# Altium schematic symbol library lib.SchLib: 383 symbols (part 2 of 3)
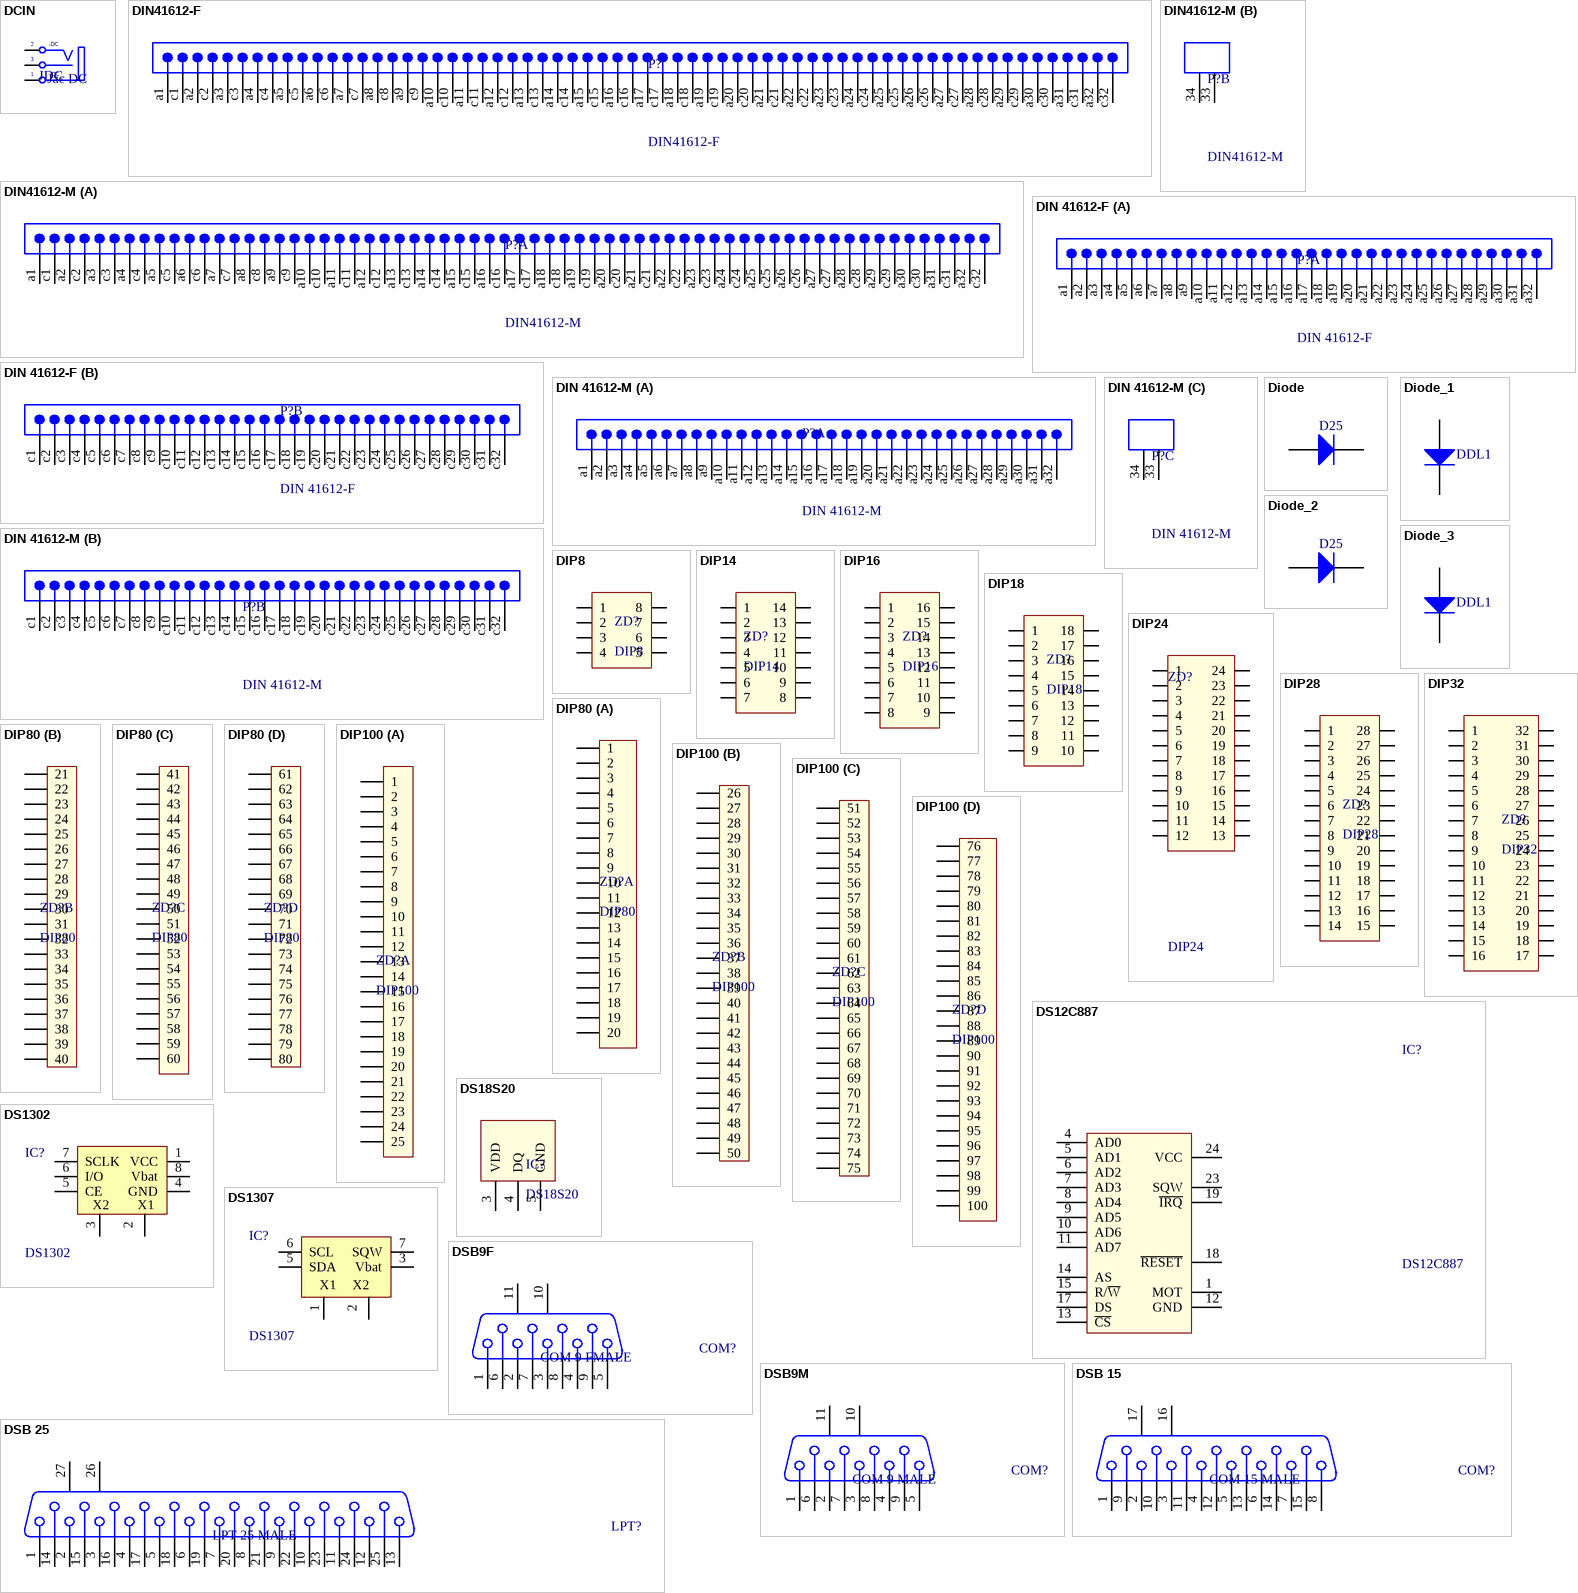
[diagram p15: symbols DCIN to DSB 25]

## DIN41612-M
designator P?
Eurocard DIN 41612, Type C, 62+2 Position, Rows a+c, Performance level 1, Male, Lead 3.0 mm, Pitch 2.54 mm; Note: Two leading contacts at positions a1 & a32.; DrillSize: Corresponds to nominal value.; Published: 6-Oct-2005; DatasheetDocument: 02-Jun-2003; PackageDocument: 18-May-2000; PackageReference: 0903164x951; Publisher: Altium Limited; ComponentLink1Description: Manufacturer Link; ComponentLink1URL: http://www.harting.com/; ComponentLink2Description: Packaging Specification; ComponentLink2URL: http://www.harkis.harting.com/_gds/pdf/TB_0903164x951_BL01_R27477.pdf
footprint DIN41612-M (Connector; DIN 41612, Type C, Thru-Hole; Rows a+c, 64 Position; Right Angle)
signal-integrity model DIN 41612
part A pins: a1, a2, a3, a4, a5, a6, a7, a8, a9, a10, a11, a12, a13, a14, a15, a16, a17, a18, a19, a20, a21, a22, a23, a24, a25, a26, a27, a28, a29, a30, a31, a32, c1, c2, c3, c4, c5, c6, c7, c8, c9, c10, c11, c12, c13, c14, c15, c16, c17, c18, c19, c20, c21, c22, c23, c24, c25, c26, c27, c28, c29, c30, c31, c32
part B pins: 33 MH1 "Mounting Fixture", 34 MH2 "Mounting Fixture"

## DIN 41612-F
designator P?
Eurocard DIN 41612, Type C, 64 Position, Rows a+c, Performance level 1, Male, Lead 3.0 mm, Pitch 2.54 mm; DrillSize: Corresponds to nominal value.; Published: 6-Oct-2005; DatasheetDocument: 02-Jun-2003; PackageDocument: 03-Jul-2000; PackageReference: 0903164x922; Publisher: Altium Limited; ComponentLink1Description: Manufacturer Link; ComponentLink1URL: http://www.harting.com/; ComponentLink2Description: Packaging Specification; ComponentLink2URL: http://www.harkis.harting.com/_gds/pdf/TB_0903164x922_BL01_R27486.pdf
footprint DIN41612-F (Connector; DIN 41612, Type C, Thru-Hole; Rows a+c, 64 Position; Vertical; No Mounting Fixture)
signal-integrity model DIN 41612
part A pins: a1, a2, a3, a4, a5, a6, a7, a8, a9, a10, a11, a12, a13, a14, a15, a16, a17, a18, a19, a20, a21, a22, a23, a24, a25, a26, a27, a28, a29, a30, a31, a32
part B pins: c1, c2, c3, c4, c5, c6, c7, c8, c9, c10, c11, c12, c13, c14, c15, c16, c17, c18, c19, c20, c21, c22, c23, c24, c25, c26, c27, c28, c29, c30, c31, c32

## DIN 41612-M
designator P?
Eurocard DIN 41612, Type C, 62+2 Position, Rows a+c, Performance level 1, Male, Lead 3.0 mm, Pitch 2.54 mm; Note: Two leading contacts at positions a1 & a32.; DrillSize: Corresponds to nominal value.; Published: 6-Oct-2005; DatasheetDocument: 02-Jun-2003; PackageDocument: 18-May-2000; PackageReference: 0903164x951; Publisher: Altium Limited; ComponentLink1Description: Manufacturer Link; ComponentLink1URL: http://www.harting.com/; ComponentLink2Description: Packaging Specification; ComponentLink2URL: http://www.harkis.harting.com/_gds/pdf/TB_0903164x951_BL01_R27477.pdf
footprint DIN41612-M (Connector; DIN 41612, Type C, Thru-Hole; Rows a+c, 64 Position; Right Angle)
signal-integrity model DIN 41612
part A pins: a1, a2, a3, a4, a5, a6, a7, a8, a9, a10, a11, a12, a13, a14, a15, a16, a17, a18, a19, a20, a21, a22, a23, a24, a25, a26, a27, a28, a29, a30, a31, a32
part B pins: c1, c2, c3, c4, c5, c6, c7, c8, c9, c10, c11, c12, c13, c14, c15, c16, c17, c18, c19, c20, c21, c22, c23, c24, c25, c26, c27, c28, c29, c30, c31, c32
part C pins: 33 MH1 "Mounting Fixture", 34 MH2 "Mounting Fixture"

## Diode
designator D25  (value not drawn)
Default Diode; Code - JEDEC: DO-214-AB; Value: 1N5007; Published: 8-Jun-2000; Revision: July-2002: Re-released for DXP Platform.; Publisher: Altium Limited
footprint D5AN (Diode 5A, W 200mil, L 250mil)
simulation model DIODE (Diode)
signal-integrity model Diode
pins: 1 A, 2 K

## Diode_1
designator DDL1, comment Diode  (value not drawn)
Default Diode; Code - JEDEC: DO-214-AB; Value: 1N5007; Published: 8-Jun-2000; Revision: July-2002: Re-released for DXP Platform.; Publisher: Altium Limited
footprint D5AN (Diode 5A, W 200mil, L 250mil)
simulation model DIODE (Diode)
signal-integrity model Diode
pins: 1 A, 2 K

## Diode_2
designator D25, comment Diode  (value not drawn)
Default Diode; Code - JEDEC: DO-214-AB; Value: 1N5007; Published: 8-Jun-2000; Revision: July-2002: Re-released for DXP Platform.; Publisher: Altium Limited
footprint D5AN (Diode 5A, W 200mil, L 250mil)
simulation model DIODE (Diode)
signal-integrity model Diode
pins: 1 A, 2 K

## Diode_3
designator DDL1, comment Diode  (value not drawn)
Default Diode; Code - JEDEC: DO-214-AB; Value: 1N5007; Published: 8-Jun-2000; Revision: July-2002: Re-released for DXP Platform.; Publisher: Altium Limited
footprint D5AN (Diode 5A, W 200mil, L 250mil)
simulation model DIODE (Diode)
signal-integrity model Diode
pins: 1 A, 2 K

## DIP8
designator ZD?
Value: DIP8
footprint DIP8/W0.3 (8 PIN, W 300mil, Pin to pin 100mil)
pins: 1, 2, 3, 4, 5, 6, 7, 8

## DIP14
designator ZD?
Value: DIP14
footprint DIP14/W0.3 (14PIN, W 300mil, Pin to pin 100mil)
pins: 1, 2, 3, 4, 5, 6, 7, 8, 9, 10, 11, 12, 13, 14

## DIP16
designator ZD?
Value: DIP16
footprint DIP16/W0.3 (16 PIN, W 300mil, Pin to pin 100mil)
pins: 1, 2, 3, 4, 5, 6, 7, 8, 9, 10, 11, 12, 13, 14, 15, 16

## DIP18
designator ZD?
Value: DIP18
footprint DIP18/W0.3 (18 PIN, W 300mil, Pin to pin 100mil)
pins: 1, 2, 3, 4, 5, 6, 7, 8, 9, 10, 11, 12, 13, 14, 15, 16, 17, 18

## DIP24
designator ZD?
Value: DIP24
footprint DIP28/W0.3 (28 PIN, W 300mil, Pin to pin 100mil)
pins: 1, 2, 3, 4, 5, 6, 7, 8, 9, 10, 11, 12, 13, 14, 15, 16, 17, 18, 19, 20, 21, 22, 23, 24

## DIP28
designator ZD?
Value: DIP28
footprint DIP28/W0.3 (28 PIN, W 300mil, Pin to pin 100mil)
pins: 1, 2, 3, 4, 5, 6, 7, 8, 9, 10, 11, 12, 13, 14, 15, 16, 17, 18, 19, 20, 21, 22, 23, 24, 25, 26, 27, 28

## DIP32
designator ZD?
Value: ZIP32
footprint DIP32/W0.6 (DIP32/W.600, Pin to pin 100mil)
pins: 1, 2, 3, 4, 5, 6, 7, 8, 9, 10, 11, 12, 13, 14, 15, 16, 17, 18, 19, 20, 21, 22, 23, 24, 25, 26, 27, 28, 29, 30, 31, 32

## DIP80
designator ZD?
Value: DIP80
footprint DIP80_2M (DIP80, P - P 200)
footprint TQFP-80 (Thin QFP, 80-Leads, Body 12x12mm, Pitch 0.5mm, IPC Low Density)
part A pins: 1, 2, 3, 4, 5, 6, 7, 8, 9, 10, 11, 12, 13, 14, 15, 16, 17, 18, 19, 20
part B pins: 21, 22, 23, 24, 25, 26, 27, 28, 29, 30, 31, 32, 33, 34, 35, 36, 37, 38, 39, 40
part C pins: 41, 42, 43, 44, 45, 46, 47, 48, 49, 50, 51, 52, 53, 54, 55, 56, 57, 58, 59, 60
part D pins: 61, 62, 63, 64, 65, 66, 67, 68, 69, 70, 71, 72, 73, 74, 75, 76, 77, 78, 79, 80

## DIP100
designator ZD?
Value: DIP100
footprint DIP100_2M (DIP100 - P-P 2mm)
footprint TQFP-100 (Footprint not found)
part A pins: 1, 2, 3, 4, 5, 6, 7, 8, 9, 10, 11, 12, 13, 14, 15, 16, 17, 18, 19, 20, 21, 22, 23, 24, 25
part B pins: 26, 27, 28, 29, 30, 31, 32, 33, 34, 35, 36, 37, 38, 39, 40, 41, 42, 43, 44, 45, 46, 47, 48, 49, 50
part C pins: 51, 52, 53, 54, 55, 56, 57, 58, 59, 60, 61, 62, 63, 64, 65, 66, 67, 68, 69, 70, 71, 72, 73, 74, 75
part D pins: 76, 77, 78, 79, 80, 81, 82, 83, 84, 85, 86, 87, 88, 89, 90, 91, 92, 93, 94, 95, 96, 97, 98, 99, 100

## DS12C887
designator IC?
Real Timer Parallel; Value: DS12C887
pins: 1 MOT, 4 AD0, 5 AD1, 6 AD2, 7 AD3, 8 AD4, 9 AD5, 10 AD6, 11 AD7, 12 GND, 13 ~{CS}, 14 AS, 15 R/~{W}, 17 DS, 18 ~{RESET}, 19 ~{IRQ}, 23 SQW, 24 VCC

## DS18S20
designator IC?
High Precision  1-Wire® Digital Thermometer
footprint DS18S20 (TO-92)
pins: 3 VDD, 4 DQ, 5 GND

## DS1302
designator IC?
Real Timer Serial - 2=>5V; Value: DS1307
footprint DIP8/W0.3 (8 PIN, W 300mil, Pin to pin 100mil)
footprint SO-8 (8-Pin Small Outline Integrated Circuit 1.27 mm Pitch, IPC Medium Density)
pins: 1 VCC, 2 X1, 3 X2, 4 GND, 5 CE, 6 I/O, 7 SCLK, 8 Vbat

## DS1307
designator IC?
Real Timer Serial; Value: DS1307
footprint DIP8/W0.3 (8 PIN, W 300mil, Pin to pin 100mil)
pins: 1 X1, 2 X2, 3 Vbat, 4 GND hidden to GND, 5 SDA, 6 SCL, 7 SQW, 8 VCC hidden to VCC

## DSB9F
designator COM?, comment COM 9 FMALE
COM 9; PackageDocument: O; Positions: 9; Gender: Receptacle; Value: COM 9; Published: 15-Jun-2001; LatestRevisionDate: 17-Jul-2002; LatestRevisionNote: Re-released for DXP Platform.; DatasheetDocument: 1-Sep-1999; PackageReference: 788750; Publisher: Altium Limited; Orientation: Right Angle
footprint DSB 9-F (Connector; D Subminiature; 9 Position; Right Angle; Pitch 1.385 mm)
signal-integrity model Connector
footprint DSB 9F-SM (Com 9 chan SMD,F)
pins: 1, 2, 3, 4, 5, 6, 7, 8, 9, 10 MH1, 11 MH2

## DSB9M
designator COM?, comment COM 9 MALE
COM 9; PackageDocument: O; Positions: 9; Gender: Receptacle; Value: COM 9; Published: 15-Jun-2001; LatestRevisionDate: 17-Jul-2002; LatestRevisionNote: Re-released for DXP Platform.; DatasheetDocument: 1-Sep-1999; PackageReference: 788750; Publisher: Altium Limited; Orientation: Right Angle
signal-integrity model Connector
footprint DSB 9M-SM (Com 9 chan SMD,F)
footprint DSB 9-M (Footprint not found)
pins: 1, 2, 3, 4, 5, 6, 7, 8, 9, 10 MH1, 11 MH2

## DSB 15
designator COM?, comment COM 15 MALE
COM 15; PackageDocument: O; Positions: 15; Gender: Receptacle; Value: COM 15; Published: 15-Jun-2001; LatestRevisionDate: 17-Jul-2002; LatestRevisionNote: Re-released for DXP Platform.; DatasheetDocument: 1-Sep-99; PackageReference: 788757; Publisher: Altium Limited; Orientation: Right Angle
footprint DSB 15-F (COM FMALE - D Subminiature; 15 Position; Right Angle; Pitch 1.385 mm)
signal-integrity model Connector
footprint DSB 15-M (LPT15 MALE - D Subminiature; 15 Position; Right Angle; Pitch 1.385 mm)
pins: 1, 2, 3, 4, 5, 6, 7, 8, 9, 10, 11, 12, 13, 14, 15, 16 MH1, 17 MH2

## DSB 25
designator LPT?, comment LPT 25 MALE
LPT 25; PackageDocument: U; Positions: 25; Gender: Receptacle; Value: LPT 25; Published: 15-Jun-2001; LatestRevisionDate: 17-Jul-2002; LatestRevisionNote: Re-released for DXP Platform.; DatasheetDocument: 19-Mar-1999; PackageReference: 787202; Publisher: Altium Limited; Orientation: Right Angle
footprint DSB 25-F (LPT FMALE - D Subminiature; 25 Position; Right Angle; Pitch 1.385 mm)
signal-integrity model Connector
footprint DSB 25F-SM (25 pin, connector LPT)
footprint DSB 25-M (LPT MALE D Subminiature; 25 Position; Right Angle; Pitch 1.385 mm)
pins: 1, 2, 3, 4, 5, 6, 7, 8, 9, 10, 11, 12, 13, 14, 15, 16, 17, 18, 19, 20, 21, 22, 23, 24, 25, 26 MH1, 27 MH2

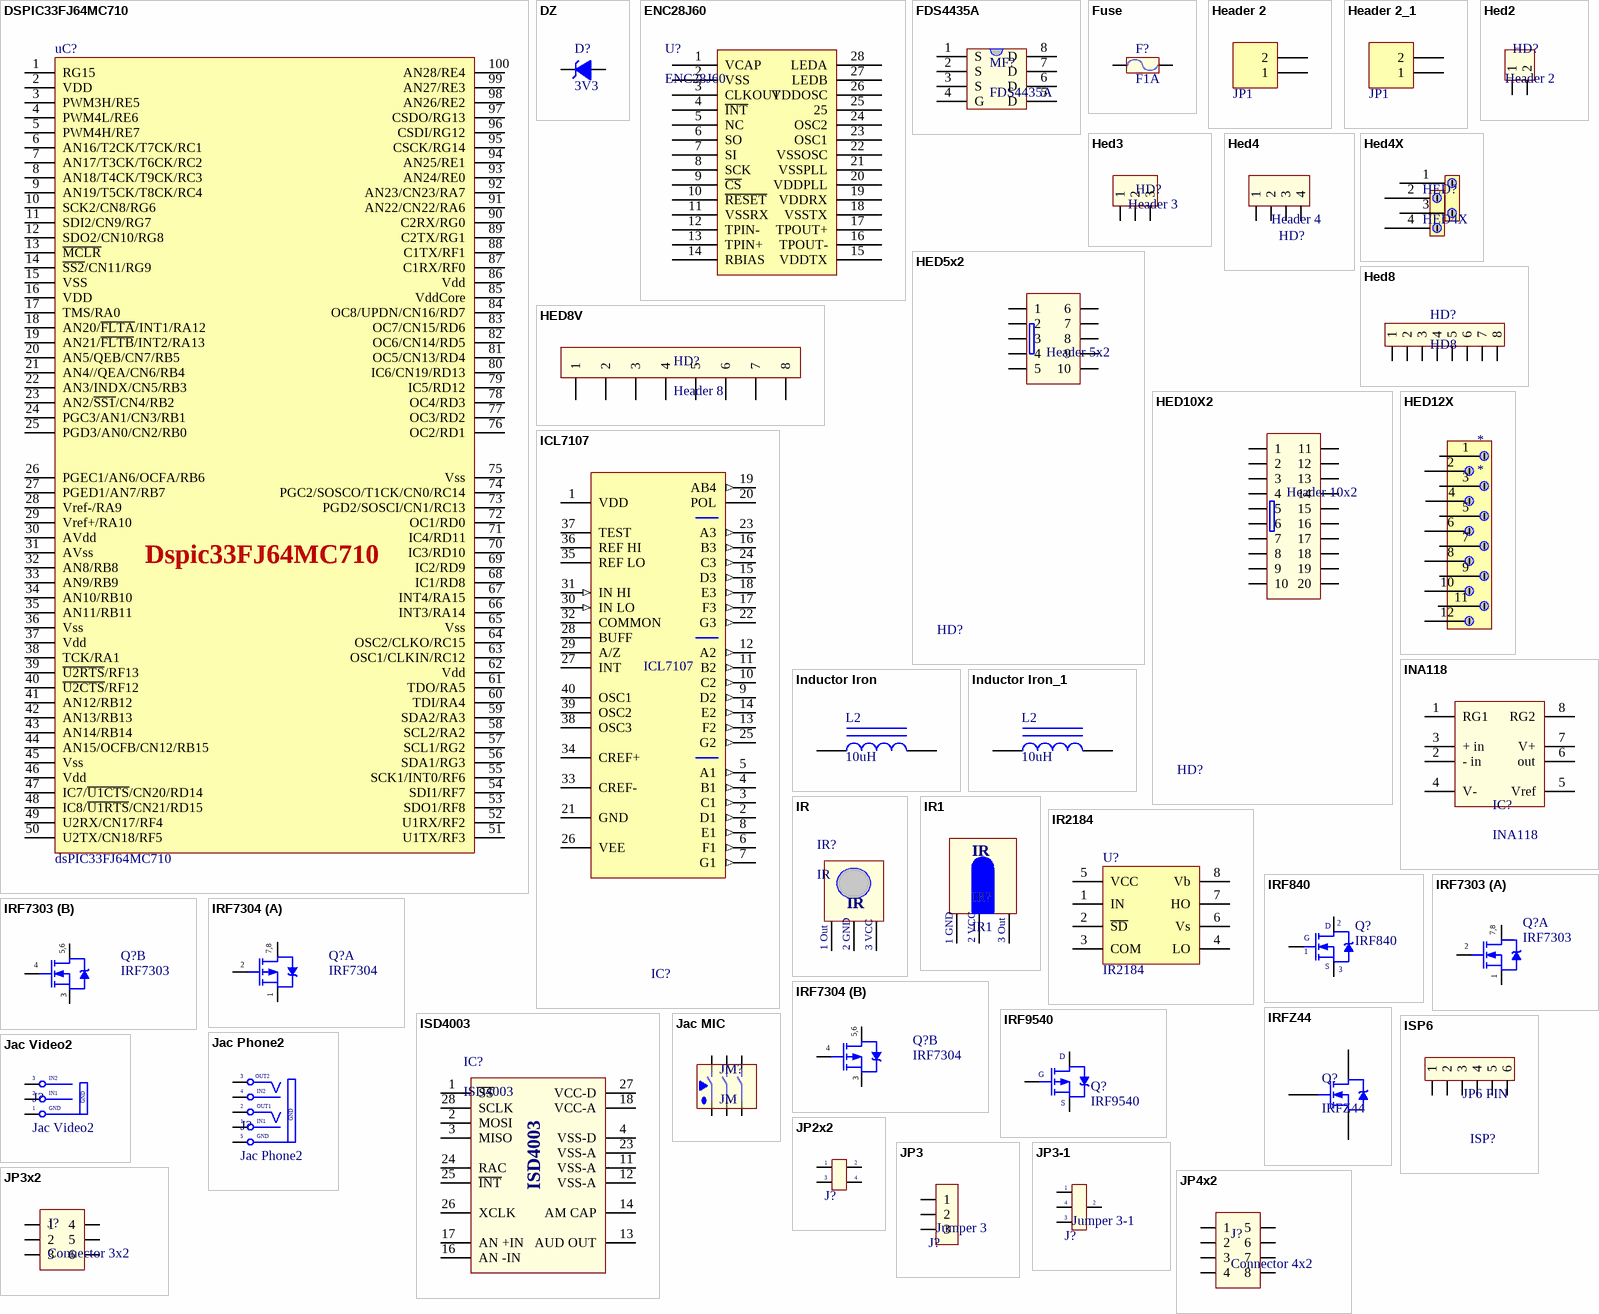
[diagram p7: symbols DSPIC33FJ64MC710 to JP4x2]

## DSPIC33FJ64MC710
designator uC?, comment dsPIC33FJ64MC710
dsPIC33FJ64/128/256_MC710
footprint SQFP12X12-100(N)
footprint SQFP14X14-100(N)
footprint TQFP-100-12X12 (Shrink QFP, 100-Leads, Body 12x12mm, Pitch 0.4mm, IPC High Density)
pins: 1 RG15, 2 VDD, 3 PWM3H/RE5, 4 PWM4L/RE6, 5 PWM4H/RE7, 6 AN16/T2CK/T7CK/RC1, 7 AN17/T3CK/T6CK/RC2, 8 AN18/T4CK/T9CK/RC3, 9 AN19/T5CK/T8CK/RC4, 10 SCK2/CN8/RG6, 11 SDI2/CN9/RG7, 12 SDO2/CN10/RG8, 13 ~{MCLR}, 14 ~{SS2}/CN11/RG9, 15 VSS, 16 VDD, 17 TMS/RA0, 18 AN20/~{FLTA}/INT1/RA12, 19 AN21/~{FLTB}/INT2/RA13, 20 AN5/QEB/CN7/RB5, 21 AN4//QEA/CN6/RB4, 22 AN3/INDX/CN5/RB3, 23 AN2/~{SS1}/CN4/RB2, 24 PGC3/AN1/CN3/RB1, 25 PGD3/AN0/CN2/RB0, 26 PGEC1/AN6/OCFA/RB6, 27 PGED1/AN7/RB7, 28 Vref-/RA9, 29 Vref+/RA10, 30 AVdd, 31 AVss, 32 AN8/RB8, 33 AN9/RB9, 34 AN10/RB10, 35 AN11/RB11, 36 Vss, 37 Vdd, 38 TCK/RA1, 39 ~{U2RTS}/RF13, 40 ~{U2CTS}/RF12, 41 AN12/RB12, 42 AN13/RB13, 43 AN14/RB14, 44 AN15/OCFB/CN12/RB15, 45 Vss, 46 Vdd, 47 IC7/~{U1CTS}/CN20/RD14, 48 IC8/~{U1RTS}/CN21/RD15, 49 U2RX/CN17/RF4, 50 U2TX/CN18/RF5, 51 U1TX/RF3, 52 U1RX/RF2, 53 SDO1/RF8, 54 SDI1/RF7, 55 SCK1/INT0/RF6, 56 SDA1/RG3, 57 SCL1/RG2, 58 SCL2/RA2, 59 SDA2/RA3, 60 TDI/RA4, 61 TDO/RA5, 62 Vdd, 63 OSC1/CLKIN/RC12, 64 OSC2/CLKO/RC15, 65 Vss, 66 INT3/RA14, 67 INT4/RA15, 68 IC1/RD8, 69 IC2/RD9, 70 IC3/RD10, 71 IC4/RD11, 72 OC1/RD0, 73 PGD2/SOSCI/CN1/RC13, 74 PGC2/SOSCO/T1CK/CN0/RC14, 75 Vss, 76 OC2/RD1, 77 OC3/RD2, 78 OC4/RD3, 79 IC5/RD12, 80 IC6/CN19/RD13, 81 OC5/CN13/RD4, 82 OC6/CN14/RD5, 83 OC7/CN15/RD6, 84 OC8/UPDN/CN16/RD7, 85 VddCore, 86 Vdd, 87 C1RX/RF0, 88 C1TX/RF1, 89 C2TX/RG1, 90 C2RX/RG0, 91 AN22/CN22/RA6, 92 AN23/CN23/RA7, 93 AN24/RE0, 94 AN25/RE1, 95 CSCK/RG14, 96 CSDI/RG12, 97 CSDO/RG13, 98 AN26/RE2, 99 AN27/RE3, 100 AN28/RE4
text: Dspic33FJ64MC710

## DZ
designator D?, comment 3V3
Diode Zenner; Value: 3v3
footprint DZ0.5A (Diode Zenner, W 80mil, L 300mil)
footprint DZ5A (Diode 5A, W 200mil, L 550mil)
footprint DZ1A (Diode 1A, W 100mil, L 350mil)
footprint DZ2A (Diode 2A, W 150mil, L 450mil)
pins: 1 A, 2 K

## ENC28J60
designator U?
Stand-Alone Ethernet Controller with SPI Interface
footprint DIP28/W0.3 (28 PIN, W 300mil, Pin to pin 100mil)
footprint SOP_28M_127 (SOP, 28-Leads, Body 18.1x8.6mm, Pitch 1.27mm, IPC Low Density)
pins: 1 VCAP, 2 VSS, 3 CLKOUT, 4 ~{INT}, 5 NC, 6 SO, 7 SI, 8 SCK, 9 ~{CS}, 10 ~{RESET}, 11 VSSRX, 12 TPIN-, 13 TPIN+, 14 RBIAS, 15 VDDTX, 16 TPOUT-, 17 TPOUT+, 18 VSSTX, 19 VDDRX, 20 VDDPLL, 21 VSSPLL, 22 VSSOSC, 23 OSC1, 24 OSC2, 25, 26 VDDOSC, 27 LEDB, 28 LEDA

## FDS4435A
designator MF?
P-Channel Logic Level PowerTrench MOSFET; Value: FDS4435
footprint SO-8 (8-Pin Small Outline Integrated Circuit 1.27 mm Pitch, IPC Medium Density)
footprint DIP8/w0.3 (8 PIN, W 300mil, Pin to pin 100mil)
pins: 1 S, 2 S, 3 S, 4 G, 5 D, 6 D, 7 D, 8 D

## Fuse
designator F?, comment F1A
Fuse; Designed by: VanDungEvn; Value: Fuse
footprint Fuse (De Fuse)
footprint FUSE1 (De Fuse Box)
footprint FUSE2 (Fuse)
pins: 1, 2

## Header 2
designator JP1
Header, 2-Pin; Manufacturer: Generic Components; Class: Connector; Value: Header 2
footprint HEDH
signal-integrity model Connector
pins: 1, 2

## Header 2_1
designator JP1
Header, 2-Pin; Manufacturer: Generic Components; Class: Connector; Value: Header 2
footprint HED2 (Header 2, 2 pin, hight 300mil, Pin to Pin 200, Colour Green)
pins: 1, 2

## Hed2
designator HD?, comment Header 2
Header 2 (Green); Value: Header 2
footprint HED2 (Header 2, 2 pin, hight 300mil, Pin to Pin 200, Colour Green)
footprint HED2T (Header 2, 2 pin, hight 300mil, Pin to Pin 200, Colour Green)
footprint HED2B (Header 2, 2 pin, hight 300mil, Pin to Pin 150, Colour White)
pins: 1, 2

## Hed3
designator HD?, comment Header 3
Header 3 (Green); Value: Header 3
footprint HED3 (Header 3, 3 pin, hight 300mil, Pin to Pin 200)
footprint HED3T (Header 3, 3 pin, hight 300mil, Pin to Pin 200, Colour Green)
footprint HED3B (Header 3, 3 pin, hight 300mil, Pin to Pin 150, Colour White)
pins: 1, 2, 3

## Hed4
designator HD?, comment Header 4
Header 4 (Green); Value: Header 4
footprint HED4 (Header 4, 4 pin, hight 300mil, Pin to Pin 200, Colour Green)
footprint HED4T (Header 4, 4 pin, hight 300mil, Pin to Pin 200, Colour Green)
footprint HED4B (Header 4, 4 pin, hight 300mil, Pin to Pin 150, Colour White)
pins: 1, 2, 3, 4

## Hed4X
designator HED?, comment HED4X
footprint HED4X
pins: 1 G, 2, 3, 4

## HED5x2
designator HD?, comment Header 5x2
Value: Header 5x2
footprint Hed2X5 (Header 10x2,20 pin, connecter)
pins: 1, 2, 3, 4, 5, 6, 7, 8, 9, 10

## Hed8
designator HD?, comment HD8
Hedear 8; Creat by: VanDungEvn@Gmail.com
footprint HED8 (CON8)
pins: 1, 2, 3, 4, 5, 6, 7, 8

## HED8V
designator HD?, comment Header 8
Header 8 Vit Broad
footprint HED8V (Header 6)
pins: 1, 2, 3, 4, 5, 6, 7, 8

## HED10X2
designator HD?, comment Header 10x2
Value: Header 5x2
footprint Hed2X10 (Header 10x2,20 pin, connecter)
pins: 1, 2, 3, 4, 5, 6, 7, 8, 9, 10, 11, 12, 13, 14, 15, 16, 17, 18, 19, 20

## HED12X
designator *
footprint Hed12X
pins: 1 G, 2 (power), 3 (power), 4 (power), 5 (power), 6 (power), 7 (power), 8 (power), 9 (power), 10 (power), 11 (power), 12 (power)

## ICL7107
designator IC?
Dipslay voltage 0 - 1999; Value: ICL7107
footprint DIP40/W0.6 (40 PIN, W 600mil, Pin to pin 100mil)
pins: 1 VDD (power), 2 D1 (out), 3 C1 (out), 4 B1 (out), 5 A1 (out), 6 F1 (out), 7 G1 (out), 8 E1 (out), 9 D2 (out), 10 C2 (out), 11 B2 (out), 12 A2 (out), 13 F2 (out), 14 E2 (out), 15 D3 (out), 16 B3 (out), 17 F3 (out), 18 E3 (out), 19 AB4 (out), 20 POL, 21 GND (power), 22 G3 (out), 23 A3 (out), 24 C3 (out), 25 G2 (out), 26 VEE (power), 27 INT, 28 BUFF, 29 A/Z, 30 IN LO (in), 31 IN HI (in), 32 COMMON, 33 CREF-, 34 CREF+, 35 REF LO, 36 REF HI, 37 TEST, 38 OSC3, 39 OSC2, 40 OSC1

## INA118
designator IC?
Precision, Low Power  INSTRUMENTATION AMPLIFIER; Designed by: VanDungEvn; Value: INA118
footprint DIP8/W0.3 (8 PIN, W 300mil, Pin to pin 100mil)
pins: 1 RG1, 2 - in, 3 + in, 4 V-, 5 Vref, 6 out, 7 V+, 8 RG2

## Inductor Iron
designator L2  value 10uH  (hidden comment: Inductor Iron)
Magnetic-Core Inductor; Manufacturer: Generic Components; Class: Passive; Published: 1999; SubClass: Inductor
footprint R1/2W (R 1/2W, 2 pin, 300mil)
pins: 1, 2

## Inductor Iron_1
designator L2, comment value 10uH  (hidden comment: Inductor Iron)
Magnetic-Core Inductor; Manufacturer: Generic Components; Class: Passive; Published: 1999; SubClass: Inductor
footprint R1/2W (R 1/2W, 2 pin, 300mil)
pins: 1, 2

## IR
designator IR?
Receiver Infraed IC
footprint IR (Receiver Infared IC)
pins: 1 Out, 2 GND, 3 VCC
text: 1 Out; 2 GND; 3 VCC

## IR1
designator IR?
Receiver Infraed IC
footprint IR2 (Receiver Infared IC)
pins: 1 Out, 2 GND, 3 VCC
text: IR; 1 GND; 2 VCC; 3 Out

## IR2184
designator U?
Half-Bridge Driver
footprint DIP8/W0.3 (8 PIN, W 300mil, Pin to pin 100mil)
pins: 1 IN, 2 ~{SD}, 3 COM, 4 LO, 5 VCC, 6 Vs, 7 HO, 8 Vb

## IRF840
designator Q?
MOSFET N - CHANNEL 500V - 0.75 - 8A - TO-220; Value: IRF840
footprint QTO-220 (TO-220 - 1-2-3)
pins: 1 G, 2 D, 3 S

## IRF7303
designator Q?
HEXFET Power MOSFET; Published: 8-Jun-2000; LatestRevisionDate: 13-Apr-2006; LatestRevisionNote: IPC-7351 Footprint Added.; DatasheetVersion: Aug-1997; PackageVersion: Feb-2001; PackageReference: SO-8; Publisher: Altium Limited; PackageDescription: 8-Pin Plastic Small Outline Integrated Circuit 1.27 mm Pitch; Code_JEDEC: MS-012-AA; Code_IPC: SOIC127P600-8; ComponentLink1Description: Manufacturer Link; ComponentLink1URL: http://www.irf.com/; ComponentLink2Description: Datasheet; ComponentLink2URL: http://www.irf.com/product-info/datasheets/data/irf7303.pdf
footprint SO-8 (8-Pin Small Outline Integrated Circuit 1.27 mm Pitch, IPC Medium Density)
part A pins: 1 S, 2 G, 7 D, 8 D
part B pins: 3 S, 4 G, 5 D, 6 D
part A text: 7,8
part B text: 5,6

## IRF7304
designator Q?
HEXFET Power MOSFET; Published: 8-Jun-2000; LatestRevisionDate: 13-Apr-2006; LatestRevisionNote: IPC-7351 Footprint Added.; DatasheetVersion: Aug-1997; PackageVersion: Feb-2001; PackageReference: SO-8; Publisher: Altium Limited; PackageDescription: 8-Pin Plastic Small Outline Integrated Circuit 1.27 mm Pitch; Code_JEDEC: MS-012-AA; Code_IPC: SOIC127P600-8; ComponentLink1Description: Manufacturer Link; ComponentLink1URL: http://www.irf.com/; ComponentLink2Description: Datasheet; ComponentLink2URL: http://www.irf.com/product-info/datasheets/data/irf7304.pdf
footprint SO-8 (8-Pin Small Outline Integrated Circuit 1.27 mm Pitch, IPC Medium Density)
simulation model IRF7304 (SUBCKT)
part A pins: 1 S, 2 G, 7 D, 8 D
part B pins: 3 S, 4 G, 5 D, 6 D
part A text: 7,8
part B text: 5,6

## IRF9540
designator Q?
HEXFET P-Channel Power MOSFET; Note: Pin 2 is electrically connected to pin 4.; Published: 8-Jun-2000; LatestRevisionDate: 17-Jul-2002; LatestRevisionNote: Re-released for DXP Platform.; DatasheetVersion: PD-9.421C; PackageVersion: Feb-1997; PackageReference: TO-220AB; Publisher: Altium Limited; PackageDescription: TO, Thru-Hole, Vertical, Heatsink Mounted; 3 In-Line Leads; Pitch 2.54 mm; ComponentLink1Description: Manufacturer Link; ComponentLink1URL: http://www.irf.com/; ComponentLink2Description: Datasheet; ComponentLink2URL: http://www.irf.com/product-info/datasheets/data/irf9540.pdf
footprint QTO-220 (TO-220 - 1-2-3)
simulation model IRF9540 (SUBCKT)
pins: 1 G, 2 D, 3 S

## IRFZ44
designator Q?
HEXFET N-Channel Power MOSFET
footprint QTO-220H3 (TO-220 1-2-3)
pins: 1 G, 2 D, 3 S

## ISD4003
designator IC?
Single-chip voice Record/Playback solution
footprint DIP28/W0.6 (DIP28/W.600, Pin to pin 100mil)
pins: 1 ~{SS}, 2 MOSI, 3 MISO, 4 VSS-D, 11 VSS-A, 12 VSS-A, 13 AUD OUT, 14 AM CAP, 16 AN -IN, 17 AN +IN, 18 VCC-A, 23 VSS-A, 24 RAC, 25 ~{INT}, 26 XCLK, 27 VCC-D, 28 SCLK

## ISP6
designator ISP?, comment JP6 PIN
ISP6 PIN; Value: JP7
footprint ISP6 (Jac nap PIC)
pins: 1, 2, 3, 4, 5, 6, 7, 8

## Jac MIC
designator JM?, comment JM
Jac Micro; Value: Jac MIC to 6 pin
footprint MIC6 (Footprint not found)
pins: 1, 2, 3, 4, 5, 6

## Jac Phone2
designator J?
Jac Phone Stereo; Creat by: VanDungEvn@Gmail.com
footprint JacPhone2 (Jac Phone Stereo)
footprint JAC_PHONE2 (Jac Phone Stereo)
pins: 1 S1 (power) "Sleeve (Ground)", 2 S1 "Tip Normal (Break Contact)", 3 TN "Tip Normal (Break Contact)", 4 S (power) "Sleeve (Ground)", 5 GND "Tip"
text: OUT2; IN2; OUT1; IN1

## Jac Video2
designator J?
Jac Video Stereo
footprint Jac Video2 (Footprint not found)
pins: 1 GND "Tip", 2 S1 (power) "Sleeve (Ground)", 3 S2 "Tip Normal (Break Contact)"
text: IN2; IN1

## JP2x2
designator J?, comment Jumper 2x2  (value not drawn)
Value: JP 2x2
footprint JP2X2
footprint JP2x2FM
pins: 1, 2, 3, 4

## JP3
designator J?, comment Jumper 3
Value: J3
footprint JP3 (Jumper 3)
footprint JP3H
pins: 1, 2, 3

## JP3-1
designator J?, comment Jumper 3-1
Value: J3-1
footprint J3-1 (Jumper 4)
pins: 1, 2, 3, 4

## JP3x2
designator J?, comment Connector 3x2
Value: Connector 3x2
footprint JP3x2 (Connector 3x2)
pins: 1, 2, 3, 4, 5, 6

## JP4x2
designator J?, comment Connector 4x2
Value: Connector 4x2
footprint JP4x2 (Connector 4x2)
pins: 1, 2, 3, 4, 5, 6, 7, 8

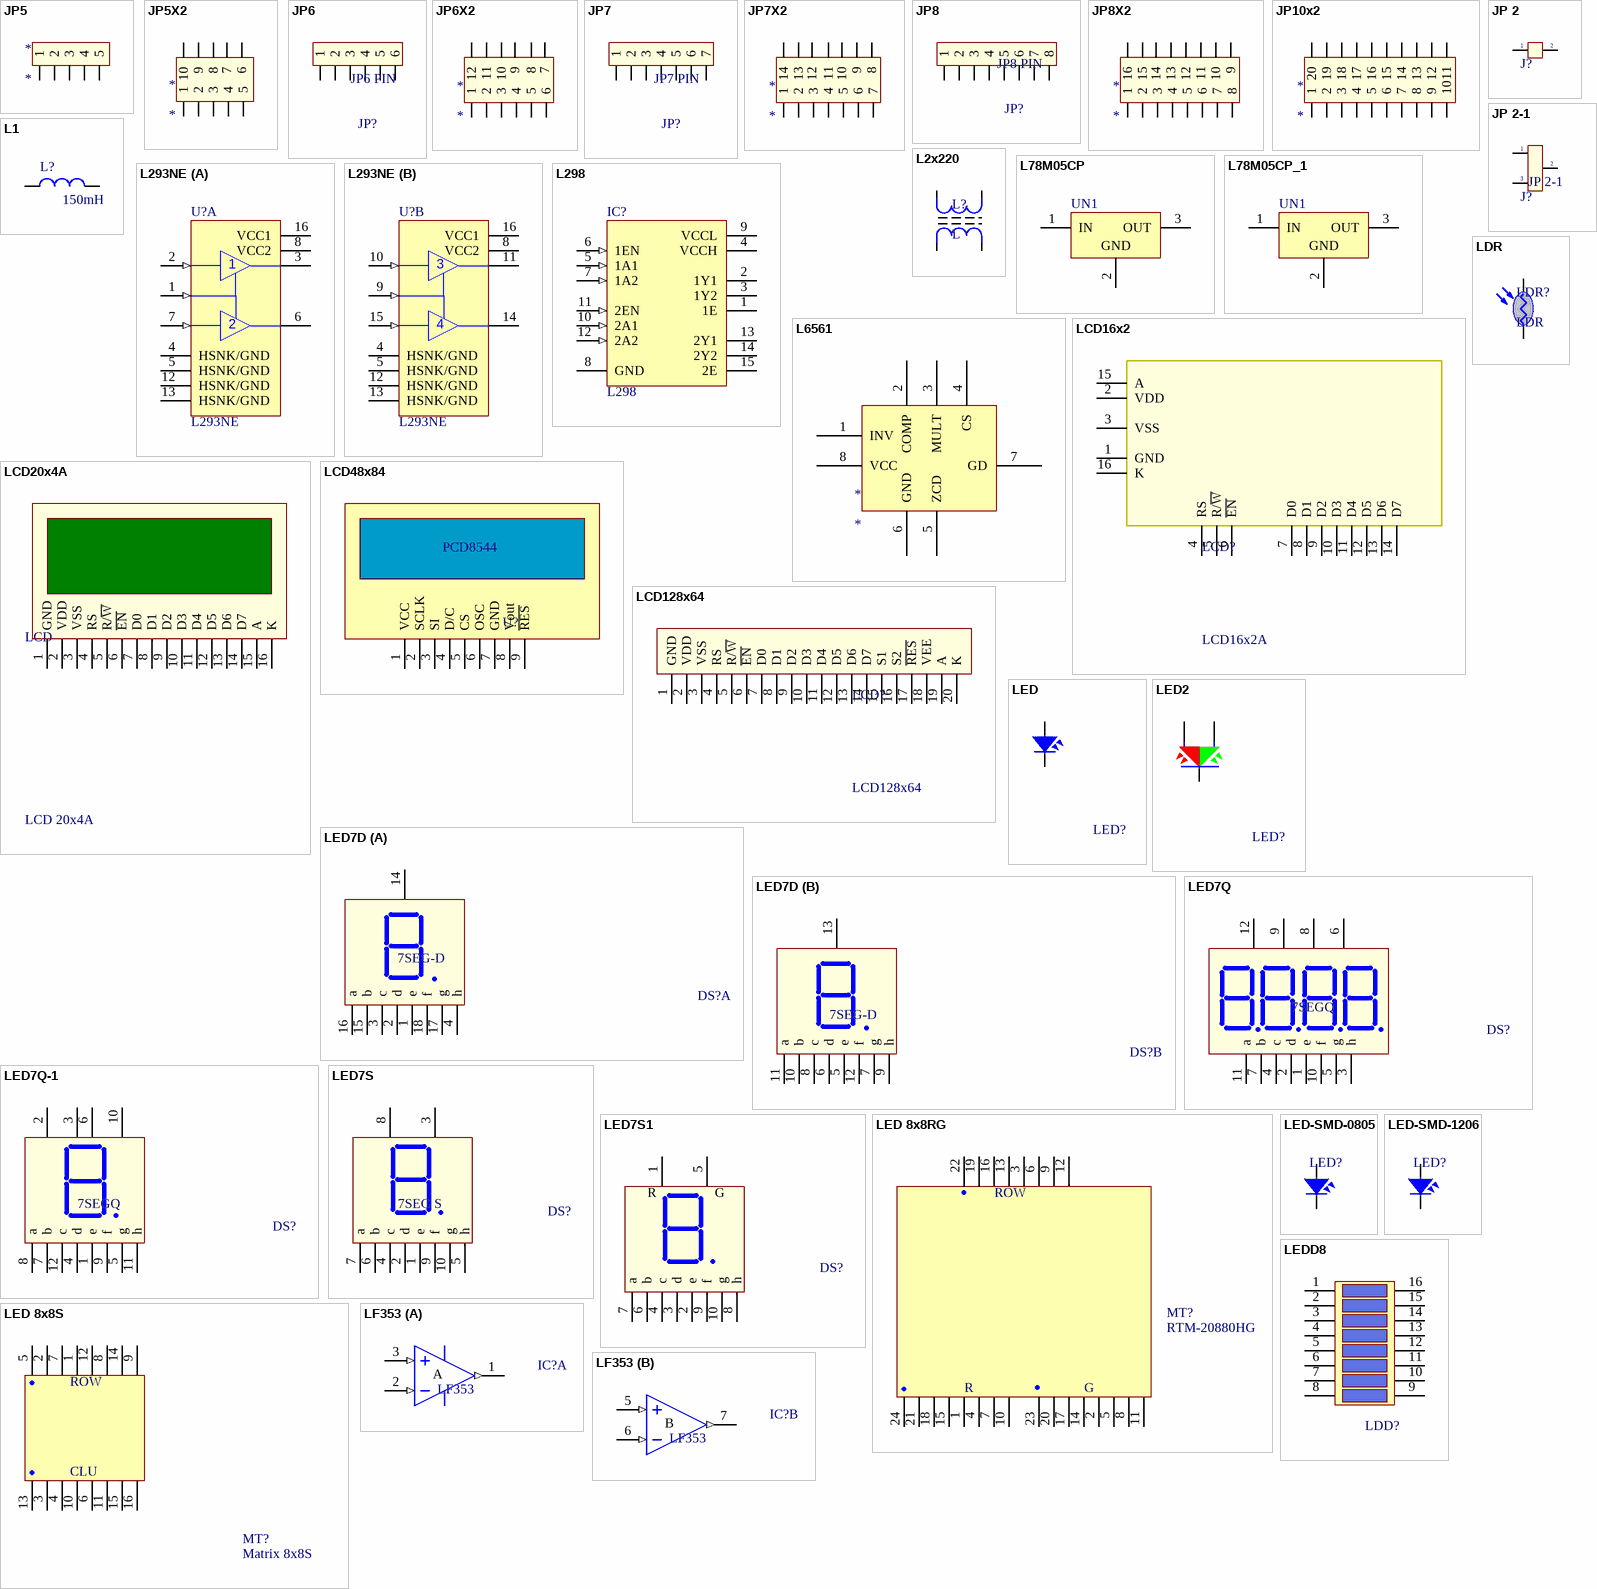
[diagram p8: symbols JP5 to LF353]

## JP5
designator *
footprint JP5
footprint JP5H
pins: 1, 2, 3, 4, 5

## JP5X2
designator *
footprint JP5X2
pins: 1, 2, 3, 4, 5, 6, 7, 8, 9, 10

## JP6
designator JP?, comment JP6 PIN
Value: JP7
footprint JP6
footprint JP6H
pins: 1, 2, 3, 4, 5, 6

## JP6X2
designator *
footprint JP6X2
pins: 1, 2, 3, 4, 5, 6, 7, 8, 9, 10, 11, 12

## JP7
designator JP?, comment JP7 PIN
Value: JP7
footprint JP7
footprint JP7H
pins: 1, 2, 3, 4, 5, 6, 7

## JP7X2
designator *
footprint JP7X2
pins: 1, 2, 3, 4, 5, 6, 7, 8, 9, 10, 11, 12, 13, 14

## JP8
designator JP?, comment JP8 PIN
Value: JP7
footprint JP8
footprint JP8H
pins: 1, 2, 3, 4, 5, 6, 7, 8

## JP8X2
designator *
footprint JP8X2
pins: 1, 2, 3, 4, 5, 6, 7, 8, 9, 10, 11, 12, 13, 14, 15, 16

## JP10x2
designator *
footprint JP10X2H
footprint JP10X2FM
footprint JP10X2H
pins: 1, 2, 3, 4, 5, 6, 7, 8, 9, 10, 11, 12, 13, 14, 15, 16, 17, 18, 19, 20

## JP 2
designator J?, comment Jumper 2  (value not drawn)
Value: JP 2
footprint JP2
footprint jp2h
pins: 1, 2

## JP 2-1
designator J?
Jumper 2-1; Value: J2-1
footprint JP3 (Jumper 3)
pins: 1, 2, 3

## L1
designator L?, comment 150mH
Inductor; Value: 150 mH
footprint L/0.4 (Inductor , 2 Pin, L 350mil, W 150 mil)
footprint L01 (Inductor)
pins: 1, 2

## L2x220
designator L?, comment L
Inductor; Value: Loc 220; Designed by: VanDungEvn
footprint L2x220
pins: 1, 2, 3, 4

## L78M05CP
designator UN1  (value not drawn)
Positive Voltage Regulator; Note: Tab is connected to pin 3 (GND).; Published: 24-Aug-2001; LatestRevisionDate: 17-Jul-2002; LatestRevisionNote: Re-released for DXP Platform.; DatasheetVersion: Apr-1994; PackageVersion: Jul-1998; PackageReference: ISOWATT220AB; Publisher: Altium Limited; PackageDescription: TO, Thru-Hole, Vertical, Heatsink Mounted; 3 In-Line Leads; Pitch 2.54 mm; Pin sequence 1, 3, 2; ComponentLink1Description: Manufacturer Link; ComponentLink1URL: http://www.st.com/; ComponentLink2Description: Datasheet; ComponentLink2URL: http://www.st.com/stonline/products/literature/ds/2146/l78m05c.pdf
footprint QTO-220H2 (TO-220 - 1-2-3)
pins: 1 IN (power), 2 GND (power), 3 OUT (power)

## L78M05CP_1
designator UN1, comment L78M05CP  (value not drawn)
Positive Voltage Regulator; Note: Tab is connected to pin 3 (GND).; Published: 24-Aug-2001; LatestRevisionDate: 17-Jul-2002; LatestRevisionNote: Re-released for DXP Platform.; DatasheetVersion: Apr-1994; PackageVersion: Jul-1998; PackageReference: ISOWATT220AB; Publisher: Altium Limited; PackageDescription: TO, Thru-Hole, Vertical, Heatsink Mounted; 3 In-Line Leads; Pitch 2.54 mm; Pin sequence 1, 3, 2; ComponentLink1Description: Manufacturer Link; ComponentLink1URL: http://www.st.com/; ComponentLink2Description: Datasheet; ComponentLink2URL: http://www.st.com/stonline/products/literature/ds/2146/l78m05c.pdf
footprint QTO-220H2 (TO-220 - 1-2-3)
pins: 1 IN (power), 2 GND (power), 3 OUT (power)

## L293NE
designator U?
Quadruple Half-H Driver; Published: 15-May-2002; LatestRevisionDate: 04-Mar-2005; LatestRevisionNote: Stylized 3D Model Added.; DatasheetVersion: May-1990; PackageVersion: 1991; PackageReference: NE016; Publisher: Altium Limited; PackageDescription: DIP; 16 Leads; Row Spacing 7.62 mm; Pitch 2.54 mm; Code_JEDEC: MS-001-BB; ComponentLink1Description: Manufacturer Link; ComponentLink1URL: http://www.ti.com/; ComponentLink2Description: Datasheet; ComponentLink2URL: http://www-s.ti.com/sc/ds/l293.pdf
footprint DIP16/W0.3 (16 PIN, W 300mil, Pin to pin 100mil)
pins on every part: 4 HSNK/GND (power), 5 HSNK/GND (power), 8 VCC2 (power), 12 HSNK/GND (power), 13 HSNK/GND (power), 16 VCC1 (power)
part A pins: 1 1,2EN (in), 2 1A (in), 3 1Y (hiz), 6 2Y (hiz), 7 2A (in)
part B pins: 9 3,4EN (in), 10 3A (in), 11 3Y (hiz), 14 4Y (hiz), 15 4A (in)

## L298
designator IC?
Dual Full-H Driver; Note: The tab is elec is connected to GND pin; Published: 15-May-2002; DatasheetVersion: Jun-1990; PackageReference: KV015; Publisher: Altium Limited; PackageDescription: TO, Thru-Hole, Vertical, Heatsink Mounted; 15 Bent Staggered Leads; Pitch 1.27 mm; ComponentLink1Description: Manufacturer Link; ComponentLink1URL: http://www.ti.com/
footprint DIP15SL2 (TO, Thru-Hole, Vertical, Heatsink Mounted; 15 Bent Staggered Leads; Pitch 1.27 mm)
pins: 1 1E, 2 1Y1 (hiz), 3 1Y2 (hiz), 4 VCCH (power), 5 1A1 (in), 6 1EN (in), 7 1A2 (in), 8 GND (power), 9 VCCL (power), 10 2A1 (in), 11 2EN (in), 12 2A2 (in), 13 2Y1 (hiz), 14 2Y2 (hiz), 15 2E

## L6561
designator *
footprint DIP8/W0.3 (8 PIN, W 300mil, Pin to pin 100mil)
pins: 1 INV, 2 COMP, 3 MULT, 4 CS, 5 ZCD, 6 GND (power), 7 GD, 8 VCC (power)

## LCD16x2
designator LCD?, comment LCD16x2A
LCD dipslay 16 char, 2 line; Value: LCD16x2A
footprint LCD16X2N (LCD dipslay 16x2, 16 pin)
footprint LCD16X2 (LCD dipslay 16x2, 16 pin)
pins: 1 GND, 2 VDD, 3 VSS, 4 RS, 5 R/~{W}, 6 ~{EN}, 7 D0, 8 D1, 9 D2, 10 D3, 11 D4, 12 D5, 13 D6, 14 D7, 15 A, 16 K

## LCD20x4A
designator LCD, comment LCD 20x4A
LCD dipslay 20 char, 4 line; Value: Jum 40; Value: LCD 20x4A
footprint LCD20X4A (LCD dipslay 20x4, 16 pin)
pins: 1 GND, 2 VDD, 3 VSS, 4 RS, 5 R/~{W}, 6 ~{EN}, 7 D0, 8 D1, 9 D2, 10 D3, 11 D4, 12 D5, 13 D6, 14 D7, 15 A, 16 K

## LCD48x84
designator U?, comment PCD8544
LCD Graphic; Value: PCD8544
footprint CON9
pins: 1 VCC, 2 SCLK, 3 SI, 4 D/C, 5 CS, 6 OSC, 7 GND, 8 Vout, 9 ~{RES}

## LCD128x64
designator LCD?
LCD Graphic 128x64; Value: LCD 128x64
footprint LCD128x64 (LCD Graphic 128x64, 20 pin)
pins: 1 GND, 2 VDD, 3 VSS, 4 RS, 5 R/~{W}, 6 ~{EN}, 7 D0, 8 D1, 9 D2, 10 D3, 11 D4, 12 D5, 13 D6, 14 D7, 15 S1, 16 S2, 17 ~{RES}, 18 VEE, 19 A, 20 K

## LDR
designator LDR?
Quang Tro
footprint CDS (Footprint not found)
pins: 1 A, 2 K

## LED
designator LED?  (value not drawn)
LED Single colour Green and Red; Value: LED 3 ly Single Colour
footprint LED-5-BLUE (LED 2 PIN, 5 ly , Only colour, pin to pin 110mil)
footprint LED-5-Green (LED 2 PIN, 5 ly , Only colour,pin to pin 100mil)
footprint LED-5-RED (LED 2 PIN, 5 ly , Only colour,pin to pin 100mil)
footprint LED-5-WHITE (LED 2 PIN, 5 ly , Only colour, pin to pin 110mil)
footprint LED-5-Yellow (LED 2 PIN, 5 ly , Only colour,pin to pin 100mil)
footprint LED-3 (LED 2 PIN, 3ly Only colour)
pins: 1, 2

## LED2
designator LED?, comment LED  (value not drawn)
LED 2 colour Green and Red; Value: LED 3 - 5 ly 2 Colour
footprint LED-32 (LED 3 PIN, 3ly Two colour)
footprint LED-52 (LED 3 PIN, 5 ly , Two colour)
pins: 1, 2, 3

## LED7D
designator DS?, comment 7SEG-D
Two 7 Seg Dipslay; Value: LED 7D SEG
footprint 7SEGD (DIP 18Leads; Body 24 x 15 mm; Pitch 0.5 mm)
part A pins: 1 e, 2 d, 3 c, 4 h, 14 V1, 15 b, 16 a, 17 g, 18 f
part B pins: 5 e, 6 d, 7 g, 8 c, 9 h, 10 b, 11 a, 12 f, 13 V2

## LED7Q
designator DS?, comment 7SEGQ
Four 7 Seg Dipslay; Value: LED 7Q SEG
footprint 7SEGQ (DIP 12 Leads; Body 48 x 20 mm; Pitch 0.5 mm)
pins: 1 e, 2 d, 3 h, 4 c, 5 g, 6 V4, 7 b, 8 V3, 9 V2, 10 f, 11 a, 12 V1

## LED7Q-1
designator DS?, comment 7SEGQ
Four 7 Seg Dipslay; Value: LED 7Q SEG
footprint 7SEGQ (DIP 12 Leads; Body 48 x 20 mm; Pitch 0.5 mm)
pins: 1 e, 2 V1, 3 V2, 4 d, 5 g, 6 V3, 7 b, 8 a, 9 f, 10 V4, 11 h, 12 c

## LED7S
designator DS?, comment 7SEG S
Single 7 Seg Dipslay; Value: LED 7S SEG
footprint 7SEGS (DIP 10 Leads; Body 12 x 15 mm; Pitch 0.5 mm)
pins: 1 e, 2 d, 3 Vcc, 4 c, 5 h, 6 b, 7 a, 8 Vcc, 9 f, 10 g

## LED7S1
designator DS?, comment 7SEG S  (value not drawn)
Single 7 Seg Dipslay 29x41 mm; Value: LED 7S SEG
footprint 7SEG_29x41 (DIP 10 Leads; Body 29 x 41 mm; Pitch 0.5 mm)
footprint 7SEG_37x55 (DIP 10 Leads; Body 29 x 41 mm; Pitch 0.5 mm)
pins: 1 R, 2 e, 3 d, 4 c, 5 COM, 6 b, 7 a, 8 h, 9 f, 10 g
text: G

## LED 8x8RG
designator MT?, comment RTM-20880HG
Matrix 8x8, Two colour; Value: Matrix 8x8 two colour
footprint 8x8RG (Matran 8x8 2mau,Body 60 X 60mm)
pins: 1 R5, 2 G5, 3 H5, 4 R6, 5 G6, 6 H6, 7 R7, 8 G7, 9 H7, 10 R8, 11 G8, 12 H8, 13 H4, 14 G4, 15 R4, 16 H3, 17 G3, 18 R3, 19 H2, 20 G2, 21 R2, 22 H1, 23 G1, 24 R1
text: ROW; R; G

## LED 8x8S
designator MT?, comment Matrix 8x8S
Matrix 8x8,  Single colour; Value: Matrix 8x8S
footprint 8x8S (Matran 8x8, Body 60 X 60mm)
pins: 1 H4, 2 H2, 3 C2, 4 C3, 5 H1, 6 C5, 7 H3, 8 H6, 9 H8, 10 C4, 11 C6, 12 H5, 13 C1, 14 H7, 15 C7, 16 C8
text: ROW; CLU

## LED-SMD-0805
designator LED?, comment LED SMD  (value not drawn)
footprint SM-LED-0805-Blue
footprint SM-LED-0805-Green
footprint SM-LED-0805-Orange
footprint SM-LED-0805-Red
footprint SM-LED-0805-Yellow
pins: 1, 2

## LED-SMD-1206
designator LED?, comment LED SMD  (value not drawn)
footprint SM-LED-1206-Blue (Compoment SMD 120x60mil)
footprint SM-LED-1206-Green
footprint SM-LED-1206-Orange
footprint SM-LED-1206-Red
footprint SM-LED-1206-Yellow
pins: 1, 2

## LEDD8
designator LDD?, comment LED DIP 8  (value not drawn)
Value: LED DIP 8
footprint DIP16/W0.3K (16 PIN, W 300mil, Pin to pin 100mil For Switch)
pins: 1, 2, 3, 4, 5, 6, 7, 8, 9, 10, 11, 12, 13, 14, 15, 16

## LF353
designator IC?
Wide-Bandwidth Dual JFET Input Operational Amplifier; Published: 15-Apr-2002; LatestRevisionDate: 06-Jun-2005; LatestRevisionNote: Stylized 3D Model Added.; DatasheetDocument: Apr-1998; PackageDocument: Sep-1997; Publisher: Altium Limited; ComponentLink1Description: Manufacturer Link; ComponentLink1URL: http://www.national.com/; ComponentLink2Description: Datasheet; ComponentLink2URL: http://www.national.com/ds.cgi/LF/LF353.pdf; ComponentLink3Description: URL Link1; ComponentLink3URL: http://www.national.com/pf/LF/LF353.html; Value: LF353
footprint DIP8/W0.3 (8 PIN, W 300mil, Pin to pin 100mil)
part A pins: 1 OUT (out), 2 IN- (in), 3 IN+ (in)
part B pins: 5 IN+ (in), 6 IN- (in), 7 OUT (out)
part A text: A
part B text: B

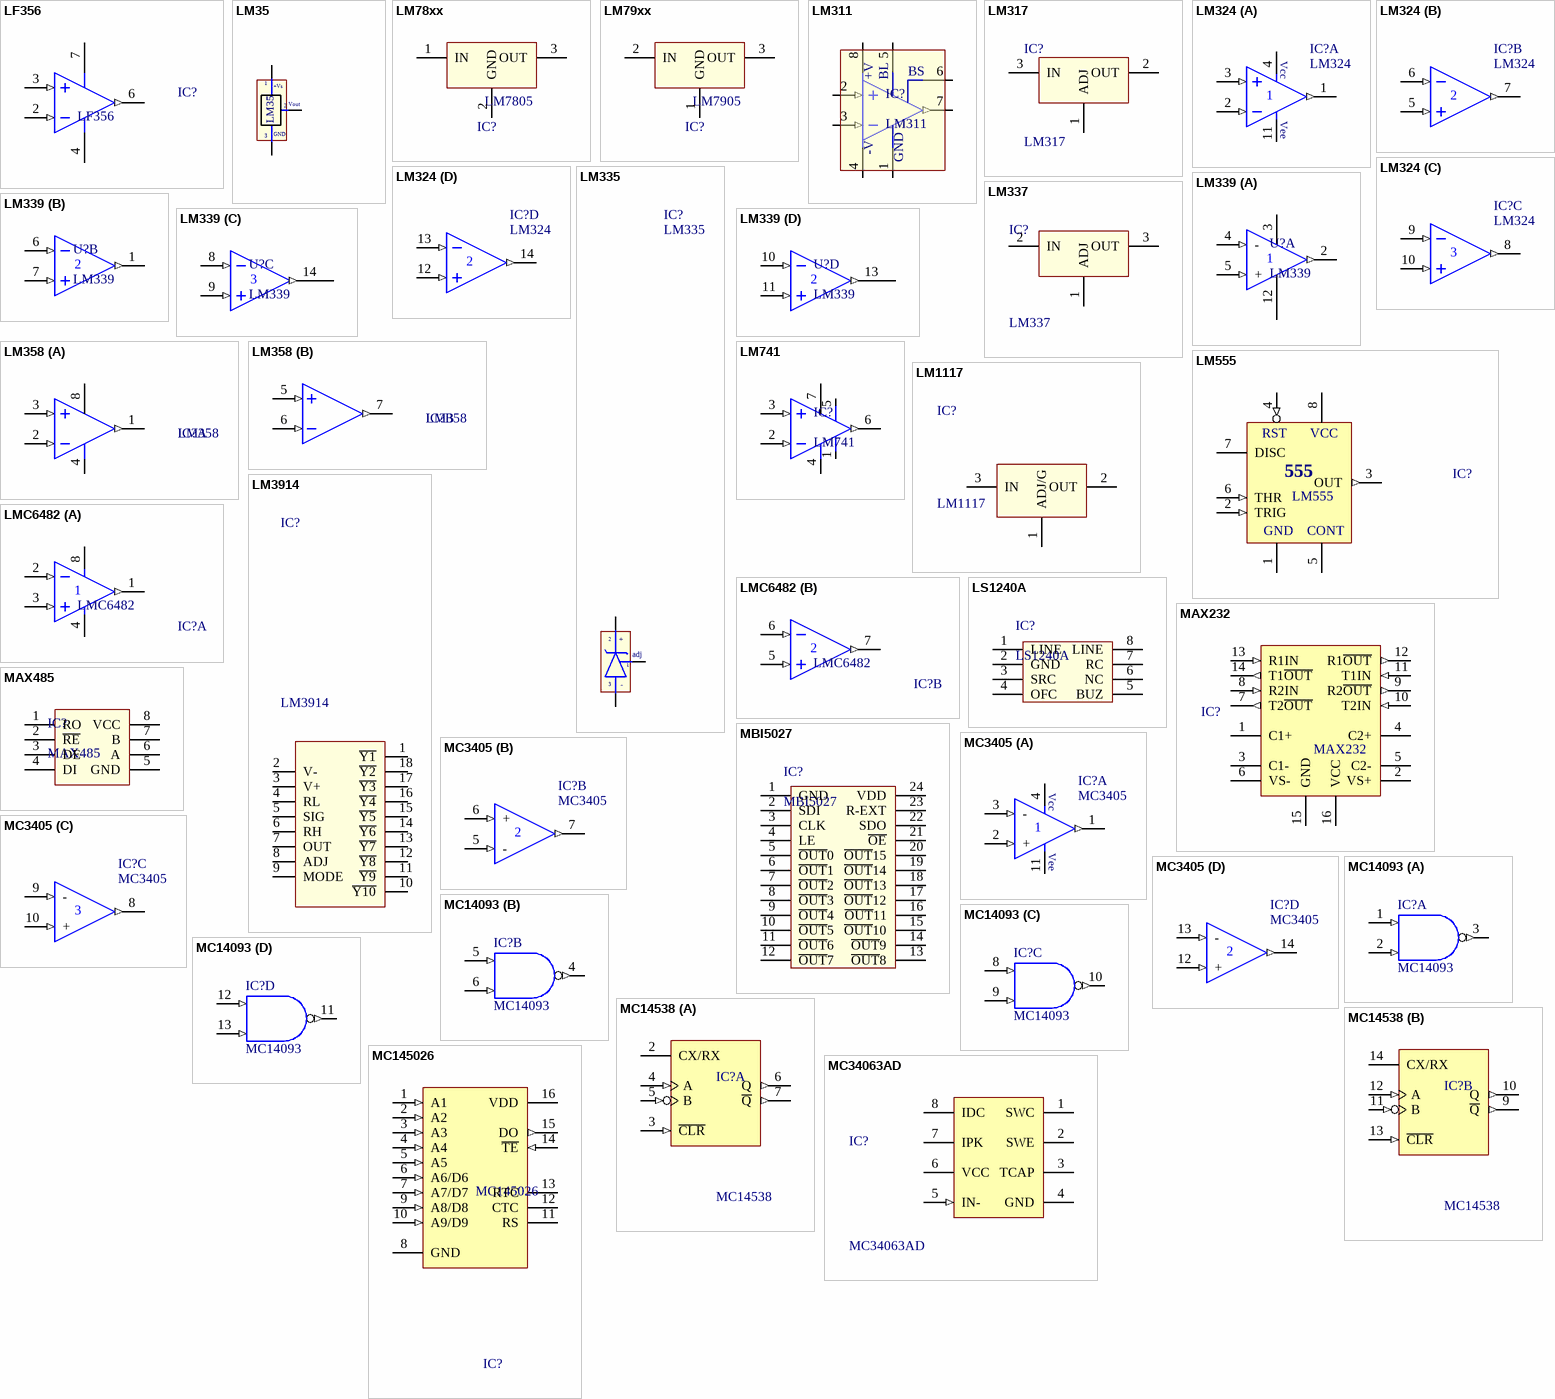
[diagram p9: symbols LF356 to MC145026]

## LF356
designator IC?
Wide-Bandwidth Single JFET Input Operational Amplifier; Published: 15-Apr-2002; LatestRevisionDate: 06-Jun-2005; LatestRevisionNote: Stylized 3D Model Added.; DatasheetDocument: Apr-1998; PackageDocument: Sep-1997; Publisher: Altium Limited; ComponentLink1Description: Manufacturer Link; ComponentLink1URL: http://www.national.com/; ComponentLink2Description: Datasheet; ComponentLink2URL: http://www.national.com/ds.cgi/LF/LF353.pdf; ComponentLink3Description: URL Link1; ComponentLink3URL: http://www.national.com/pf/LF/LF353.html; Value: LF356
footprint DIP8/W0.3 (8 PIN, W 300mil, Pin to pin 100mil)
pins: 2 IN- (in), 3 IN+ (in), 4 V- (power), 6 OUT (out), 7 V+ (power)

## LM35
designator U?
Teminal; Value: LM35
footprint QTO-92 (TO-92)
pins: 1 +Vs, 2 Vout, 3 -
text: GND

## LM78xx
designator IC?, comment LM7805
On ap +, from + 5 to + 24VDC; Value: LM7805
footprint QTO-220 (TO-220 - 1-2-3)
footprint QTO-220H3 (TO-220 1-2-3)
footprint QTO-220NH (TO-220 - 1-2-3)
pins: 1 IN, 2 GND, 3 OUT

## LM79xx
designator IC?, comment LM7905
On ap -, from - 5 to - 24VDC; Value: LM7905
footprint QTO-220 (TO-220 - 1-2-3)
footprint QTO-220H3 (TO-220 1-2-3)
footprint QTO-220NH (TO-220 - 1-2-3)
pins: 1 GND, 2 IN, 3 OUT

## LM311
designator IC?
Voltage Comparator; Value: DIP 8; Value: LM311
footprint DIP8/W0.3 (8 PIN, W 300mil, Pin to pin 100mil)
footprint SO-8 (8-Pin Small Outline Integrated Circuit 1.27 mm Pitch, IPC Medium Density)
pins: 1 F2 (power), 2 IN+ (in), 3 IN- (in), 4 GND (power), 5 F1 (power), 6 F2 (power), 7 OUT (out), 8 V+ (power)
text: +V; BL; BS; -V

## LM317
designator IC?
Adj Voltage +1.2 -> +37V; Value: LM317
footprint QTO-220 (TO-220 - 1-2-3)
pins: 1 ADJ, 2 OUT, 3 IN

## LM324
designator IC?
Op x 4; Value: LM324
footprint DIP14/W0.3 (14PIN, W 300mil)
part A pins: 1 OUT (out), 2 IN- (in), 3 IN+ (in), 4 V+ (power), 11 V- (power)
part B pins: 5 IN+ (in), 6 IN- (in), 7 OUT (out)
part C pins: 8 OUT (out), 9 IN- (in), 10 IN+ (in)
part D pins: 12 IN+ (in), 13 IN- (in), 14 OUT (out)
part A text: Vcc; Vee

## LM335
designator IC?
Teminal; Value: LM335
footprint QTO-92 (TO-92)
pins: 1 adj, 2 +, 3 -

## LM337
designator IC?
On ap (-)     -1.2 -> - 37V; Value: LM337
footprint QTO-220 (TO-220 - 1-2-3)
pins: 1 ADJ, 2 IN, 3 OUT

## LM339
designator U?
Low Power Low Offset Voltage Quad Comparators
footprint DIP14/W0.3 (14PIN, W 300mil, Pin to pin 100mil)
part A pins: 2 OUT (out), 3 VCC (power), 4 - (in), 5 + (in), 12 GND (power)
part B pins: 1 OUT (out), 6 IN- (in), 7 IN+ (in)
part C pins: 8 OUT (in), 9 IN- (in), 14 15 (out)
part D pins: 10 IN- (in), 11 IN+ (in), 13 15 (out)

## LM358
designator IC?
Low-Power Dual Operational Amplifier; Value: LM358
footprint DIP8/W0.3 (8 PIN, W 300mil, Pin to pin 100mil)
part A pins: 1 OUT (out), 2 IN- (in), 3 IN+ (in), 4 -V, 8 +V
part B pins: 5 IN+ (in), 6 IN- (in), 7 OUT (out)

## LM555
designator IC?
Timer; Value: LM555
footprint DIP8/W0.3 (8 PIN, W 300mil, Pin to pin 100mil)
pins: 1 GND (power), 2 TRIG (in), 3 OUT (out), 4 RST (in), 5 CONT, 6 THR (in), 7 DISC (oc), 8 VCC (power)
text: 555

## LM741
designator IC?
Single OA
footprint DIP8/W0.3 (8 PIN, W 300mil, Pin to pin 100mil)
pins: 1 Vos, 2 IN- (in), 3 IN+ (in), 4 -V, 5 Vos, 6 OUT (out), 7 +V

## LM1117
designator IC?
Available in 1.8V, 2.5V, 2.85V, 3.3V, 5V, and  Adjustable Versions; Value: LM317
footprint SOT223-4N (SOT223, 4-Leads, Body 6.5x3.5mm, Pitch 2.3mm, Lead Span 7mm, IPC Medium Density)
pins: 1 ADJ/G, 2 OUT, 3 IN

## LM3914
designator IC?
Value: LM3914
footprint DIP18/W0.3 (18 PIN, W 300mil, Pin to pin 100mil)
pins: 1 ~{Y1}, 2 V-, 3 V+, 4 RL, 5 SIG, 6 RH, 7 OUT, 8 ADJ, 9 MODE, 10 ~{Y10}, 11 ~{Y9}, 12 ~{Y8}, 13 ~{Y7}, 14 ~{Y6}, 15 ~{Y5}, 16 ~{Y4}, 17 ~{Y3}, 18 ~{Y2}

## LMC6482
designator IC?
Dual OA; Value: LMC6482
footprint DIP8/W0.3 (8 PIN, W 300mil, Pin to pin 100mil)
part A pins: 1 OUT (out), 2 IN- (in), 3 IN+ (in), 4 V- (power), 8 V+ (power)
part B pins: 5 IN+ (in), 6 IN- (in), 7 OUT (out)

## LS1240A
designator IC?
Electronic Two-Tone Ringer
footprint DIP8/W0.3 (8 PIN, W 300mil, Pin to pin 100mil)
pins: 1 LINE, 2 GND, 3 SRC, 4 OFC, 5 BUZ, 6 NC, 7 RC, 8 LINE

## MAX232
designator IC?
Dual EIA-232 Driver/Receiver; Value: MAX232
footprint DIP16/W0.3 (16 PIN, W 300mil, Pin to pin 100mil)
footprint SO-G16 (Small Outline; 16 Leads; Body Width 3.9 mm; Pitch 1.27 mm)
pins: 1 C1+, 2 VS+ (power), 3 C1-, 4 C2+, 5 C2-, 6 VS- (power), 7 T2~{OUT} (out), 8 R2IN (in), 9 R2~{OUT} (out), 10 T2IN (in), 11 T1IN (in), 12 R1~{OUT} (out), 13 R1IN (in), 14 T1~{OUT} (out), 15 GND (power), 16 VCC (power)

## MAX485
designator IC?
RS232 - RS485 (Same sn75176)
footprint DIP8/W0.3 (8 PIN, W 300mil, Pin to pin 100mil)
footprint SO-8 (8-Pin Small Outline Integrated Circuit 1.27 mm Pitch, IPC Medium Density)
pins: 1 RO "Receiver Output", 2 ~{RE} "Receiver Enable Output", 3 DE "Driver Enable Output", 4 DI "Driver Input", 5 GND, 6 A "RI & NoneDO", 7 B "NoneDI", 8 VCC

## MBI5027
designator IC?
16 bit Constant Current LED; Creat by: VanDungEvn@Gmail.com; Compoment same: SM16126
footprint SOP_24M_127 (SOP, 24-Leads, Body 15.6x8.1mm, Pitch 1.27mm, IPC Low Density)
pins: 1 GND, 2 SDI, 3 CLK, 4 LE, 5 ~{OUT}0, 6 ~{OUT}1, 7 ~{OUT}2, 8 ~{OUT}3, 9 ~{OUT}4, 10 ~{OUT}5, 11 ~{OUT}6, 12 ~{OUT}7, 13 ~{OUT}8, 14 ~{OUT}9, 15 ~{OUT}10, 16 ~{OUT}11, 17 ~{OUT}12, 18 ~{OUT}13, 19 ~{OUT}14, 20 ~{OUT}15, 21 ~{OE}, 22 SDO, 23 R-EXT, 24 VDD

## MC3405
designator IC?
Dual operation Ampllifier and dual comparator; Value: LM324
footprint DIP14/W0.3 (14PIN, W 300mil)
part A pins: 1 OUT (out), 2 + (in), 3 - (in), 4 V+ (power), 11 V- (power)
part B pins: 5 - (in), 6 + (in), 7 OUT (out)
part C pins: 8 OUT (out), 9 - (in), 10 + (in)
part D pins: 12 + (in), 13 - (in), 14 OUT (out)
part A text: Vcc; Vee

## MC14093
designator IC?
Quad 2-Input NAND Schmitt Trigger; Value: MC14093
footprint DIP14/W0.3 (14PIN, W 300mil, Pin to pin 100mil)
pins on every part: 7 GND (power) hidden to GND, 14 VDD (power) hidden to VDD
part A pins: 1 A (in), 2 B (in), 3 ~{Y} (out)
part B pins: 4 ~{Y} (out), 5 A (in), 6 B (in)
part C pins: 8 A (in), 9 B (in), 10 ~{Y} (out)
part D pins: 11 ~{Y} (out), 12 A (in), 13 B (in)

## MC14538
designator IC?
Dual Precision Retriggerable/Resettable Monostable Multivibrator; Value: MC14538
footprint DIP16/W0.3 (16 PIN, W 300mil, Pin to pin 100mil)
pins on every part: 1 GND (power) hidden to GND, 8 GND (power) hidden to GND, 15 GND (power) hidden to GND, 16 VDD (power) hidden to VDD
part A pins: 2 CX/RX, 3 ~{CLR} (in), 4 A (in), 5 B (in), 6 Q (out), 7 ~{Q} (out)
part B pins: 9 ~{Q} (out), 10 Q (out), 11 B (in), 12 A (in), 13 ~{CLR} (in), 14 CX/RX

## MC34063AD
designator IC?
DC-to-DC Converter Control Circuit; Published: 15-Apr-2002; LatestRevisionDate: 13-Apr-2006; LatestRevisionNote: IPC-7351 Footprint Added.; DatasheetVersion: 1996; PackageVersion: 1998; PackageReference: 751-05; Publisher: Altium Limited; PackageDescription: 8-Pin Small Outline Integrated Circuit 1.27 mm Pitch; Code_JEDEC: MS-012-AA; Code_IPC: SOIC127P600-8; ComponentLink1Description: Manufacturer Link; ComponentLink1URL: http://www.onsemi.com/site/products/taxonomy/0,4438,503,00.html; ComponentLink2Description: Datasheet; ComponentLink2URL: http://www.onsemi.com/pub/Collateral/MC34063A-D.PDF
footprint SO-G8/Z7.45 (Small Outline; 8 Leads; Body Width 3.9 mm; Pitch 1.27 mm)
footprint DIP8/W0.3 (8 PIN, W 300mil, Pin to pin 100mil)
pins: 1 SWC, 2 SWE, 3 TCAP, 4 GND (power), 5 IN- (in), 6 VCC (power), 7 IPK, 8 IDC (oc)

## MC145026
designator IC?
Encoder Remote; Value: MC145026
footprint DIP16/W0.3 (16 PIN, W 300mil, Pin to pin 100mil)
pins: 1 A1 (in), 2 A2 (in), 3 A3 (in), 4 A4 (in), 5 A5 (in), 6 A6/D6 (in), 7 A7/D7 (in), 8 GND (power), 9 A8/D8 (in), 10 A9/D9 (in), 11 RS, 12 CTC, 13 RTC, 14 ~{TE} (in), 15 DO (out), 16 VDD (power)

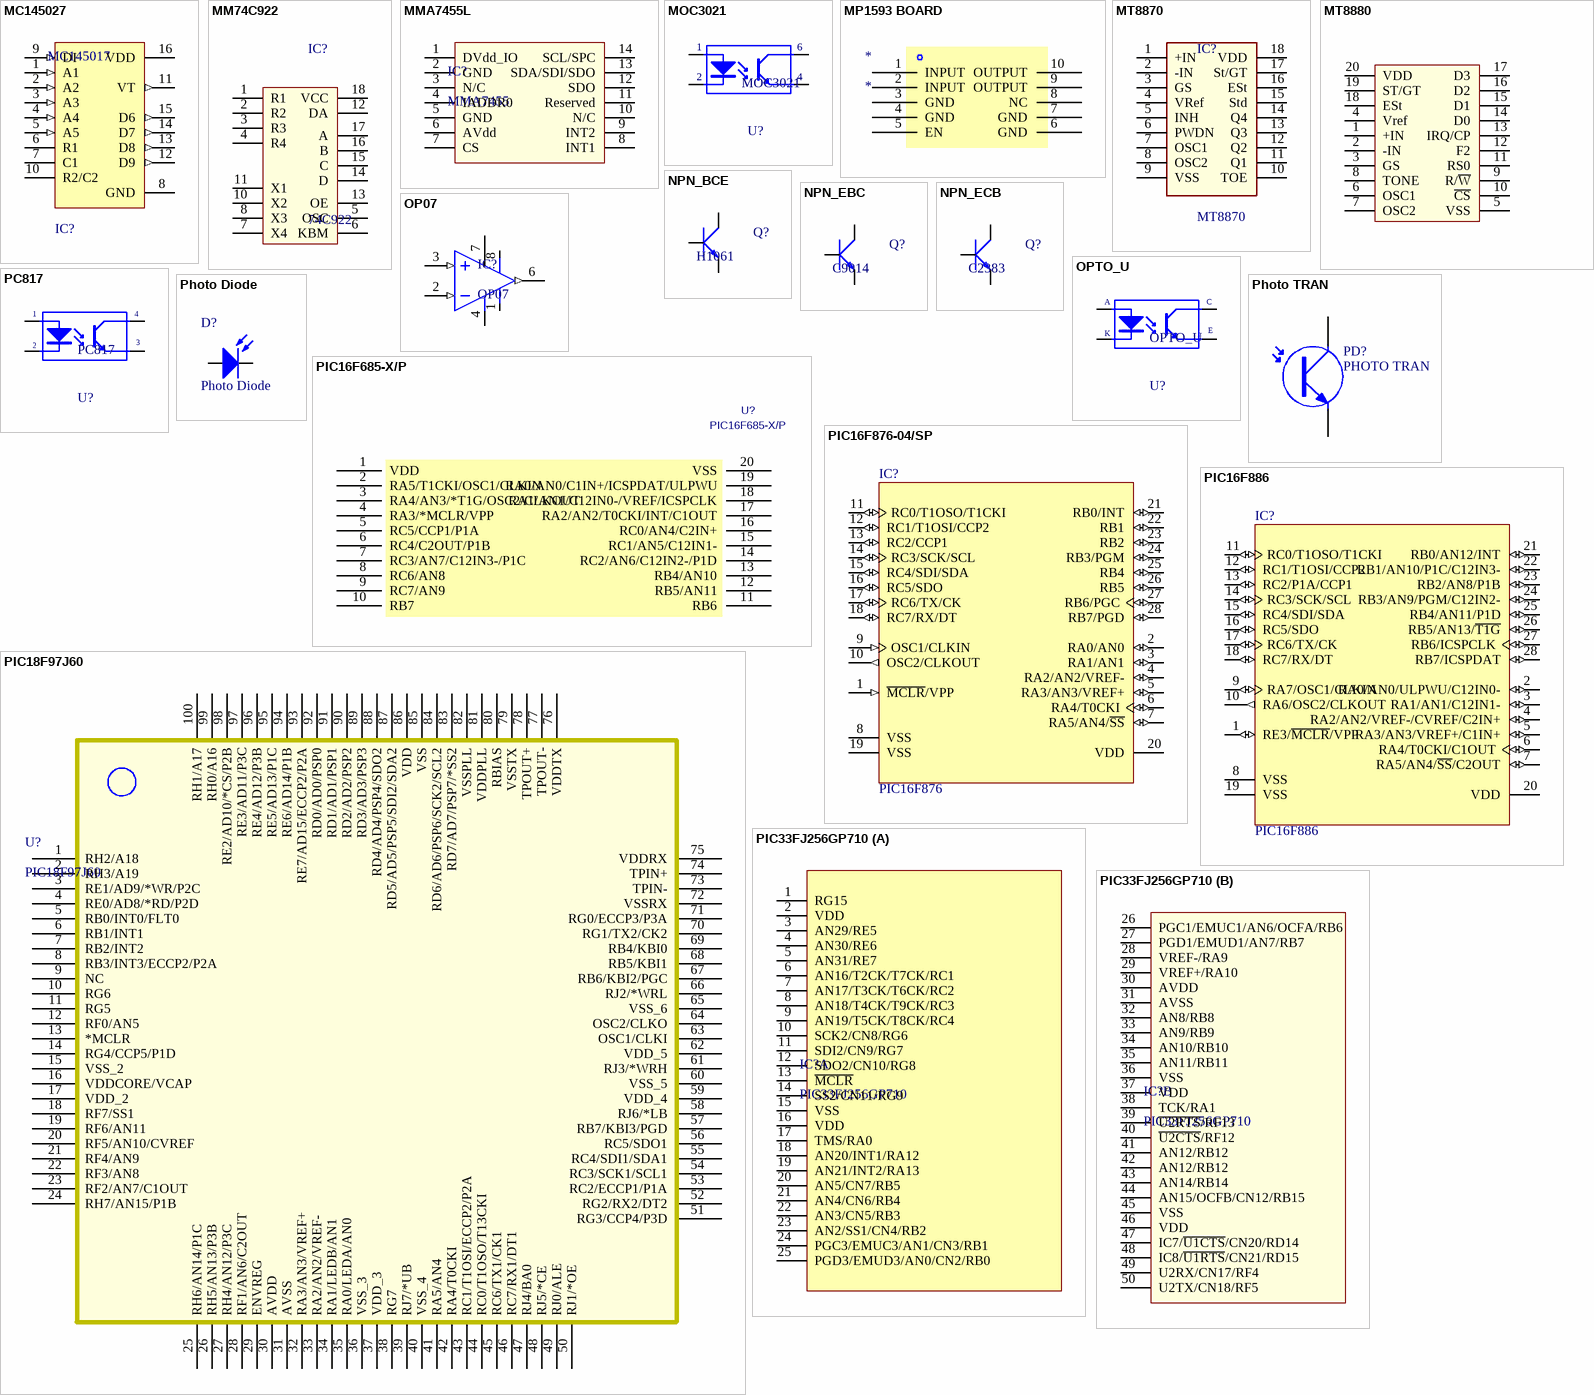
[diagram p10: symbols MC145027 to PIC33FJ256GP710]

## MC145027
designator IC?, comment MC145017
Decoder Remote; Value: MC145027
footprint DIP16/W0.3 (16 PIN, W 300mil, Pin to pin 100mil)
pins: 1 A1 (in), 2 A2 (in), 3 A3 (in), 4 A4 (in), 5 A5 (in), 6 R1, 7 C1, 8 GND (power), 9 DI (in), 10 R2/C2, 11 VT (out), 12 D9 (out), 13 D8 (out), 14 D7 (out), 15 D6 (out), 16 VDD (power)

## MM74C922
designator IC?, comment 74C922
16 Key Encoder With Debouncer; Value: MM74C922
footprint DIP18/W0.3 (18 PIN, W 300mil, Pin to pin 100mil)
pins: 1 R1, 2 R2, 3 R3, 4 R4, 5 OSC, 6 KBM, 7 X4, 8 X3, 9 GND hidden to GND, 10 X2, 11 X1, 12 DA, 13 OE, 14 D, 15 C, 16 B, 17 A, 18 VCC

## MMA7455L
designator IC?, comment MMA7455
±2g/±4g/±8g Three Axis Low-g  Digital Output Accelerometer
footprint MMA7455 (Footprint not found)
pins: 1 DVdd_IO, 2 GND, 3 N/C, 4 IADDR0, 5 GND, 6 AVdd, 7 CS, 8 INT1, 9 INT2, 10 N/C, 11 Reserved, 12 SDO, 13 SDA/SDI/SDO, 14 SCL/SPC

## MOC3021
designator U?
Single Opto; Value: MOC3021
footprint DIP6/W0.3 (6 PIN, W 300mil, Pin to pin 100mil)
pins: 1 A "Anode", 2 K "Cathode", 4 E "Emitter", 6 C "Collector"

## MP1593 BOARD
designator *
pins: 1 INPUT, 2 INPUT, 3 GND, 4 GND, 5 EN, 6 GND, 7 GND, 8 NC, 9 OUTPUT, 10 OUTPUT

## MT8870
designator IC?
DTMF RECEIVER IC MT8870 TESTER; Value: MT8068
footprint DIP18/W0.3 (18 PIN, W 300mil, Pin to pin 100mil)
pins: 1 +IN, 2 -IN, 3 GS, 4 VRef, 5 INH, 6 PWDN, 7 OSC1, 8 OSC2, 9 VSS, 10 TOE, 11 Q1, 12 Q2, 13 Q3, 14 Q4, 15 Std, 16 ESt, 17 St/GT, 18 VDD

## MT8880
designator IC?, comment MT8880C
Integrated DTMF Transceiver; Value: DIP20; Value: MT8880C
footprint DIP20/W0.3 (DIP 20, 20 PIN, W 300mil, Pin to pin 100mil)
pins: 1 +IN, 2 -IN, 3 GS, 4 Vref, 5 VSS, 6 OSC1, 7 OSC2, 8 TONE, 9 R/~{W}, 10 ~{CS}, 11 RS0, 12 F2, 13 IRQ/CP, 14 D0, 15 D1, 16 D2, 17 D3, 18 ESt, 19 ST/GT, 20 VDD

## NPN_BCE
designator Q?, comment H1061
P 1W, BCE; Value: TIP41
footprint QTO-220 (TO-220 - 1-2-3)
pins: 1 B, 2 C, 3 E

## NPN_EBC
designator Q?, comment C9014
P 600mW, EBC; Value: C9014
footprint QTO-92 (TO-92)
pins: 1 E, 2 B, 3 C

## NPN_ECB
designator Q?, comment C2383
P 600mW, ECB; Value: C1815
footprint QTO-92 (TO-92)
pins: 1 E, 2 C, 3 B

## OP07
designator IC?
Single OA
footprint DIP8/W0.3 (8 PIN, W 300mil, Pin to pin 100mil)
pins: 1 Vos, 2 IN- (in), 3 IN+ (in), 4 -V, 6 OUT (out), 7 +V, 8 Vos

## OPTO_U
designator U?
Single Opto; Value: TLP5211
footprint OPTO_U (Footprint not found)
pins: A "Anode", C "Collector", E "Emitter", K "Cathode"

## PC817
designator U?
Single Opto; Value: PC817
footprint DIP4/W0.3 (4 PIN, W 300mil, Pin to pin 100mil)
pins: 1 A "Anode", 2 K "Cathode", 3 E "Emitter", 4 C "Collector"

## Photo Diode
designator D?
Photosensitive Diode
footprint LED-5 GRe (LED 2 PIN, 5 ly , Only colour,pin to pin 100mil)
pins: 1 A, 2 K

## Photo TRAN
designator PD?, comment PHOTO TRAN
Published: 24-Mar-1999; LatestRevisionDate: 17-Jul-2002; LatestRevisionNote: Re-released for DXP Platform.; PackageReference: TO-220_A; Publisher: Altium Limited; Code_JEDEC: TO-220-AC
footprint LED-5TRED (LED 2 PIN, 5 ly , Only colour, pin to pin 110mil)
pins: 1 C, 2 E

## PIC16F685-X/P
designator U?
Value: PIC16F685-X/P
footprint DIP20/W0.3 (DIP 20, 20 PIN, W 300mil, Pin to pin 100mil)
pins: 1 VDD, 2 RA5/T1CKI/OSC1/CLKIN, 3 RA4/AN3/*T1G/OSC2/CLKOUT, 4 RA3/*MCLR/VPP, 5 RC5/CCP1/P1A, 6 RC4/C2OUT/P1B, 7 RC3/AN7/C12IN3-/P1C, 8 RC6/AN8, 9 RC7/AN9, 10 RB7, 11 RB6, 12 RB5/AN11, 13 RB4/AN10, 14 RC2/AN6/C12IN2-/P1D, 15 RC1/AN5/C12IN1-, 16 RC0/AN4/C2IN+, 17 RA2/AN2/T0CKI/INT/C1OUT, 18 RA1/AN1/C12IN0-/VREF/ICSPCLK, 19 RA0/AN0/C1IN+/ICSPDAT/ULPWU, 20 VSS

## PIC16F876-04/SP
designator IC?, comment PIC16F876
8-Bit CMOS FLASH Microcontroller, 8K x 14 words FLASH, 368 x 8 Bytes RAM, 4 MHz, 28-Pin PDIP 300mil, 4 to 5.5V VDD Range, Commercial Temperature
footprint DIP28/w0.3 (28 PIN, W 300mil, Pin to pin 100mil)
pins: 1 ~{MCLR}/VPP (in), 2 RA0/AN0 (io), 3 RA1/AN1 (io), 4 RA2/AN2/VREF- (io), 5 RA3/AN3/VREF+ (io), 6 RA4/T0CKI (io), 7 RA5/AN4/~{SS} (io), 8 VSS (power), 9 OSC1/CLKIN (in), 10 OSC2/CLKOUT (out), 11 RC0/T1OSO/T1CKI (io), 12 RC1/T1OSI/CCP2 (io), 13 RC2/CCP1 (io), 14 RC3/SCK/SCL (io), 15 RC4/SDI/SDA (io), 16 RC5/SDO (io), 17 RC6/TX/CK (io), 18 RC7/RX/DT (io), 19 VSS (power), 20 VDD (power), 21 RB0/INT (io), 22 RB1 (io), 23 RB2 (io), 24 RB3/PGM (io), 25 RB4 (io), 26 RB5 (io), 27 RB6/PGC (io), 28 RB7/PGD (io)

## PIC16F886
designator IC?
8-Bit CMOS FLASH Microcontroller, 8K x 14 words FLASH, 368 x 8 Bytes RAM, 4 MHz, 28-Pin PDIP 300mil, 4 to 5.5V VDD Range, Commercial Temperature
footprint DIP28/W0.3 (28 PIN, W 300mil, Pin to pin 100mil)
pins: 1 RE3/~{MCLR}/VPP (io), 2 RA0/AN0/ULPWU/C12IN0- (io), 3 RA1/AN1/C12IN1- (io), 4 RA2/AN2/VREF-/CVREF/C2IN+ (io), 5 RA3/AN3/VREF+/C1IN+ (io), 6 RA4/T0CKI/C1OUT (io), 7 RA5/AN4/~{SS}/C2OUT (io), 8 VSS (power), 9 RA7/OSC1/CLKIN (io), 10 RA6/OSC2/CLKOUT (out), 11 RC0/T1OSO/T1CKI (io), 12 RC1/T1OSI/CCP2 (io), 13 RC2/P1A/CCP1 (io), 14 RC3/SCK/SCL (io), 15 RC4/SDI/SDA (io), 16 RC5/SDO (io), 17 RC6/TX/CK (io), 18 RC7/RX/DT (io), 19 VSS (power), 20 VDD (power), 21 RB0/AN12/INT (io), 22 RB1/AN10/P1C/C12IN3- (io), 23 RB2/AN8/P1B (io), 24 RB3/AN9/PGM/C12IN2- (io), 25 RB4/AN11/P1D (io), 26 RB5/AN13/~{T1G} (io), 27 RB6/ICSPCLK (io), 28 RB7/ICSPDAT (io)

## PIC18F97J60
designator U?
High-Performance,  1-Mbit Flash Microcontrollers  with Ethernet
footprint TQFP100_12X12MC
pins: 1 RH2/A18, 2 RH3/A19, 3 RE1/AD9/*WR/P2C, 4 RE0/AD8/*RD/P2D, 5 RB0/INT0/FLT0, 6 RB1/INT1, 7 RB2/INT2, 8 RB3/INT3/ECCP2/P2A, 9 NC, 10 RG6, 11 RG5, 12 RF0/AN5, 13 *MCLR, 14 RG4/CCP5/P1D, 15 VSS_2, 16 VDDCORE/VCAP, 17 VDD_2, 18 RF7/SS1, 19 RF6/AN11, 20 RF5/AN10/CVREF, 21 RF4/AN9, 22 RF3/AN8, 23 RF2/AN7/C1OUT, 24 RH7/AN15/P1B, 25 RH6/AN14/P1C, 26 RH5/AN13/P3B, 27 RH4/AN12/P3C, 28 RF1/AN6/C2OUT, 29 ENVREG, 30 AVDD, 31 AVSS, 32 RA3/AN3/VREF+, 33 RA2/AN2/VREF-, 34 RA1/LEDB/AN1, 35 RA0/LEDA/AN0, 36 VSS_3, 37 VDD_3, 38 RG7, 39 RJ7/*UB, 40 VSS_4, 41 RA5/AN4, 42 RA4/T0CKI, 43 RC1/T1OSI/ECCP2/P2A, 44 RC0/T1OSO/T13CKI, 45 RC6/TX1/CK1, 46 RC7/RX1/DT1, 47 RJ4/BA0, 48 RJ5/*CE, 49 RJ0/ALE, 50 RJ1/*OE, 51 RG3/CCP4/P3D, 52 RG2/RX2/DT2, 53 RC2/ECCP1/P1A, 54 RC3/SCK1/SCL1, 55 RC4/SDI1/SDA1, 56 RC5/SDO1, 57 RB7/KBI3/PGD, 58 RJ6/*LB, 59 VDD_4, 60 VSS_5, 61 RJ3/*WRH, 62 VDD_5, 63 OSC1/CLKI, 64 OSC2/CLKO, 65 VSS_6, 66 RJ2/*WRL, 67 RB6/KBI2/PGC, 68 RB5/KBI1, 69 RB4/KBI0, 70 RG1/TX2/CK2, 71 RG0/ECCP3/P3A, 72 VSSRX, 73 TPIN-, 74 TPIN+, 75 VDDRX, 76 VDDTX, 77 TPOUT-, 78 TPOUT+, 79 VSSTX, 80 RBIAS, 81 VDDPLL, 82 VSSPLL, 83 RD7/AD7/PSP7/*SS2, 84 RD6/AD6/PSP6/SCK2/SCL2, 85 VSS, 86 VDD, 87 RD5/AD5/PSP5/SDI2/SDA2, 88 RD4/AD4/PSP4/SDO2, 89 RD3/AD3/PSP3, 90 RD2/AD2/PSP2, 91 RD1/AD1/PSP1, 92 RD0/AD0/PSP0, 93 RE7/AD15/ECCP2/P2A, 94 RE6/AD14/P1B, 95 RE5/AD13/P1C, 96 RE4/AD12/P3B, 97 RE3/AD11/P3C, 98 RE2/AD10/*CS/P2B, 99 RH0/A16, 100 RH1/A17

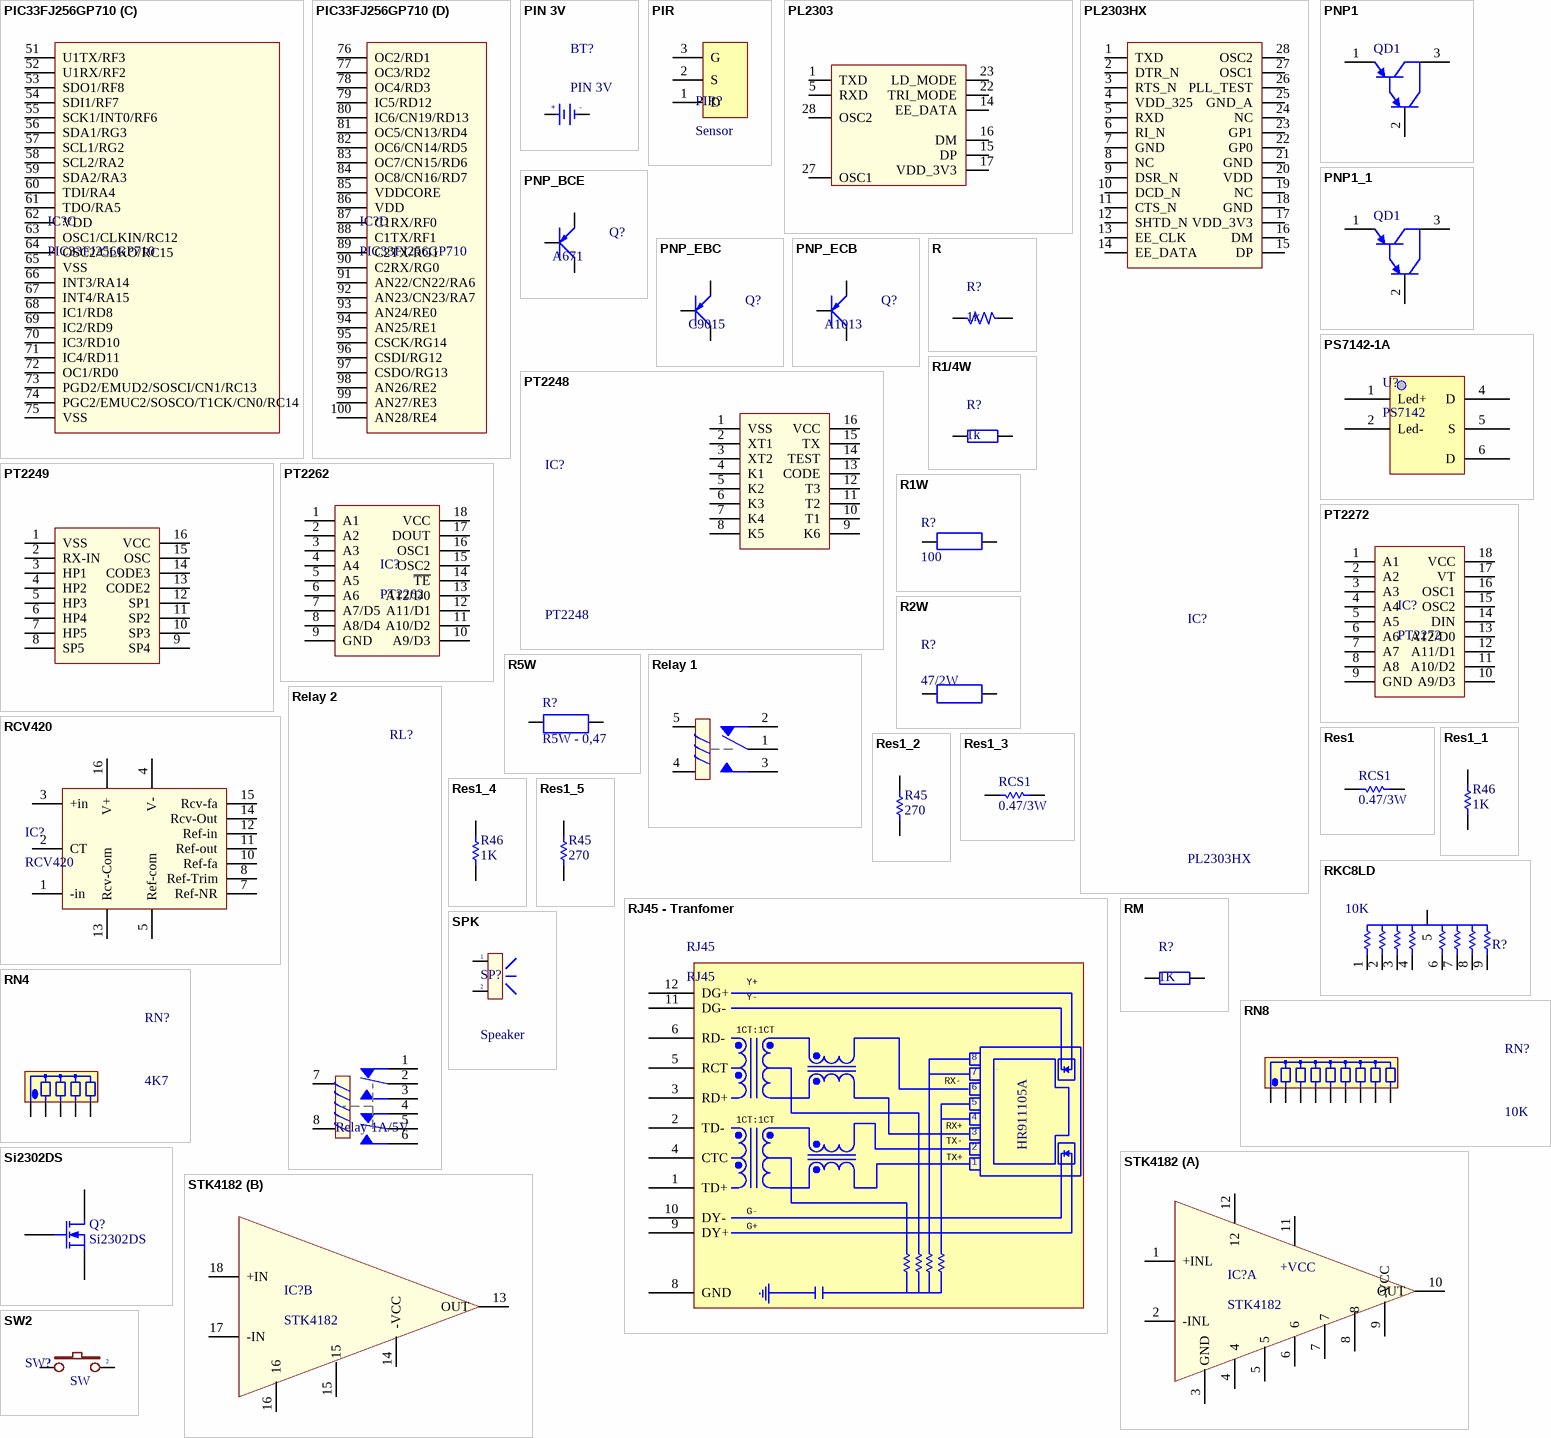
[diagram p11: symbols PIC33FJ256GP710 to SW2]

## PIC33FJ256GP710
designator IC?
Value: DIP100
footprint DIP100_2M (DIP100 - P-P 2mm)
footprint TQFP-100-12X12 (Shrink QFP, 100-Leads, Body 12x12mm, Pitch 0.4mm, IPC High Density)
part A pins: 1 RG15, 2 VDD, 3 AN29/RE5, 4 AN30/RE6, 5 AN31/RE7, 6 AN16/T2CK/T7CK/RC1, 7 AN17/T3CK/T6CK/RC2, 8 AN18/T4CK/T9CK/RC3, 9 AN19/T5CK/T8CK/RC4, 10 SCK2/CN8/RG6, 11 SDI2/CN9/RG7, 12 SDO2/CN10/RG8, 13 ~{MCLR}, 14 SS2/CN11/RG9, 15 VSS, 16 VDD, 17 TMS/RA0, 18 AN20/INT1/RA12, 19 AN21/INT2/RA13, 20 AN5/CN7/RB5, 21 AN4/CN6/RB4, 22 AN3/CN5/RB3, 23 AN2/SS1/CN4/RB2, 24 PGC3/EMUC3/AN1/CN3/RB1, 25 PGD3/EMUD3/AN0/CN2/RB0
part B pins: 26 PGC1/EMUC1/AN6/OCFA/RB6, 27 PGD1/EMUD1/AN7/RB7, 28 VREF-/RA9, 29 VREF+/RA10, 30 AVDD, 31 AVSS, 32 AN8/RB8, 33 AN9/RB9, 34 AN10/RB10, 35 AN11/RB11, 36 VSS, 37 VDD, 38 TCK/RA1, 39 ~{U2RTS}/RF13, 40 ~{U2CTS}/RF12, 41 AN12/RB12, 42 AN12/RB12, 43 AN14/RB14, 44 AN15/OCFB/CN12/RB15, 45 VSS, 46 VDD, 47 IC7/~{U1CTS}/CN20/RD14, 48 IC8/~{U1RTS}/CN21/RD15, 49 U2RX/CN17/RF4, 50 U2TX/CN18/RF5
part C pins: 51 U1TX/RF3, 52 U1RX/RF2, 53 SDO1/RF8, 54 SDI1/RF7, 55 SCK1/INT0/RF6, 56 SDA1/RG3, 57 SCL1/RG2, 58 SCL2/RA2, 59 SDA2/RA3, 60 TDI/RA4, 61 TDO/RA5, 62 VDD, 63 OSC1/CLKIN/RC12, 64 OSC2/CLKO/RC15, 65 VSS, 66 INT3/RA14, 67 INT4/RA15, 68 IC1/RD8, 69 IC2/RD9, 70 IC3/RD10, 71 IC4/RD11, 72 OC1/RD0, 73 PGD2/EMUD2/SOSCI/CN1/RC13, 74 PGC2/EMUC2/SOSCO/T1CK/CN0/RC14, 75 VSS
part D pins: 76 OC2/RD1, 77 OC3/RD2, 78 OC4/RD3, 79 IC5/RD12, 80 IC6/CN19/RD13, 81 OC5/CN13/RD4, 82 OC6/CN14/RD5, 83 OC7/CN15/RD6, 84 OC8/CN16/RD7, 85 VDDCORE, 86 VDD, 87 C1RX/RF0, 88 C1TX/RF1, 89 C2TX/RG1, 90 C2RX/RG0, 91 AN22/CN22/RA6, 92 AN23/CN23/RA7, 93 AN24/RE0, 94 AN25/RE1, 95 CSCK/RG14, 96 CSDI/RG12, 97 CSDO/RG13, 98 AN26/RE2, 99 AN27/RE3, 100 AN28/RE4

## PIN 3V
designator BT?
Battery 3VDC; Value: PIN 3V
footprint PIN3V (Socket PIN 3V)
footprint PIN 3V-S (Socket PIN 3V)
pins: 1 +3V, 2 GND
text: +; -

## PIR
designator PIR?, comment Sensor
pins: 1 D (power), 2 S, 3 G (power)

## PL2303
designator IC?
USB - RS232 Converter; Value: PL2303
footprint SO-G28/C6.8 (SSOP, Plastic; 28 Leads; Body Width 5.3 mm; Pitch 0.65 mm)
pins: 1 TXD, 2 DTR_N hidden, 3 RTS_N hidden, 4 VDD_232 hidden to VCC, 5 RXD, 6 RI_N hidden to GND, 7 GND hidden to GND, 8 VDD hidden to VCC, 9 DSR_N hidden to GND, 10 DCD_N hidden to GND, 11 CTS_N hidden to VCC, 12 SHTD_N hidden, 13 EE_CLK hidden, 14 EE_DATA, 15 DP, 16 DM, 17 VDD_3V3, 18 GND_3V3 hidden to GND, 19 RESET hidden to VCC, 20 VDD hidden to VCC, 21 GND hidden to GND, 22 TRI_MODE, 23 LD_MODE, 24 VDD_PLL hidden to VCC, 25 GND_PLL hidden to GND, 26 PLL_TEST hidden to GND, 27 OSC1, 28 OSC2

## PL2303HX
designator IC?
USB - RS232 Converter; Value: PL2303
footprint SO-G28/C6.8 (SSOP, Plastic; 28 Leads; Body Width 5.3 mm; Pitch 0.65 mm)
pins: 1 TXD, 2 DTR_N, 3 RTS_N, 4 VDD_325, 5 RXD, 6 RI_N, 7 GND, 8 NC, 9 DSR_N, 10 DCD_N, 11 CTS_N, 12 SHTD_N, 13 EE_CLK, 14 EE_DATA, 15 DP, 16 DM, 17 VDD_3V3, 18 GND, 19 NC, 20 VDD, 21 GND, 22 GP0, 23 GP1, 24 NC, 25 GND_A, 26 PLL_TEST, 27 OSC1, 28 OSC2

## PNP1
designator QD1  (value not drawn)
PNP Darlington Bipolar Transistor; PackageDocument: 1995/1996; Value: B688; Published: 8-Jun-2000; LatestRevisionDate: 17-Jul-2002; LatestRevisionNote: Re-released for DXP Platform.; DatasheetDocument: May-1994; PackageReference: E3; Publisher: Altium Limited; ComponentLink1Description: Manufacturer Link; ComponentLink1URL: http://www.zetex.com/
footprint QTO-247 (TO-247)
pins: 1 E, 2 B, 3 C

## PNP1_1
designator QD1, comment PNP1  (value not drawn)
PNP Darlington Bipolar Transistor; PackageDocument: 1995/1996; Value: B688; Published: 8-Jun-2000; LatestRevisionDate: 17-Jul-2002; LatestRevisionNote: Re-released for DXP Platform.; DatasheetDocument: May-1994; PackageReference: E3; Publisher: Altium Limited; ComponentLink1Description: Manufacturer Link; ComponentLink1URL: http://www.zetex.com/
footprint QTO-247 (TO-247)
pins: 1 E, 2 B, 3 C

## PNP_BCE
designator Q?, comment A671
P 1W, EBC; Value: TIP42
footprint QTO-220 (TO-220 - 1-2-3)
pins: 1 B, 2 C, 3 E

## PNP_EBC
designator Q?, comment C9015
P 600mW, EBC; Value: C9015
footprint QTO-92 (TO-92)
pins: 1 E, 2 B, 3 C

## PNP_ECB
designator Q?, comment A1013
P 600mW, ECB; Value: A1015
footprint QTO-92 (TO-92)
pins: 1 E, 2 C, 3 B

## PS7142-1A
designator U?, comment PS7142
footprint DIP6/W0.3 (6 PIN, W 300mil, Pin to pin 100mil)
pins: 1 Led+, 2 Led-, 3 NC hidden, 4 D, 5 S, 6 D

## PT2248
designator IC?
Remote Control Tranmitter; Value: PT2248
footprint DIP16/W0.3 (16 PIN, W 300mil, Pin to pin 100mil)
pins: 1 VSS, 2 XT1, 3 XT2, 4 K1, 5 K2, 6 K3, 7 K4, 8 K5, 9 K6, 10 T1, 11 T2, 12 T3, 13 CODE, 14 TEST, 15 TX, 16 VCC